# Altium schematic symbol library SPB_IC.SchLib: 78 symbols (part 1 of 2)
Pins are listed as number, name and electrical type; pins without a type are passive.

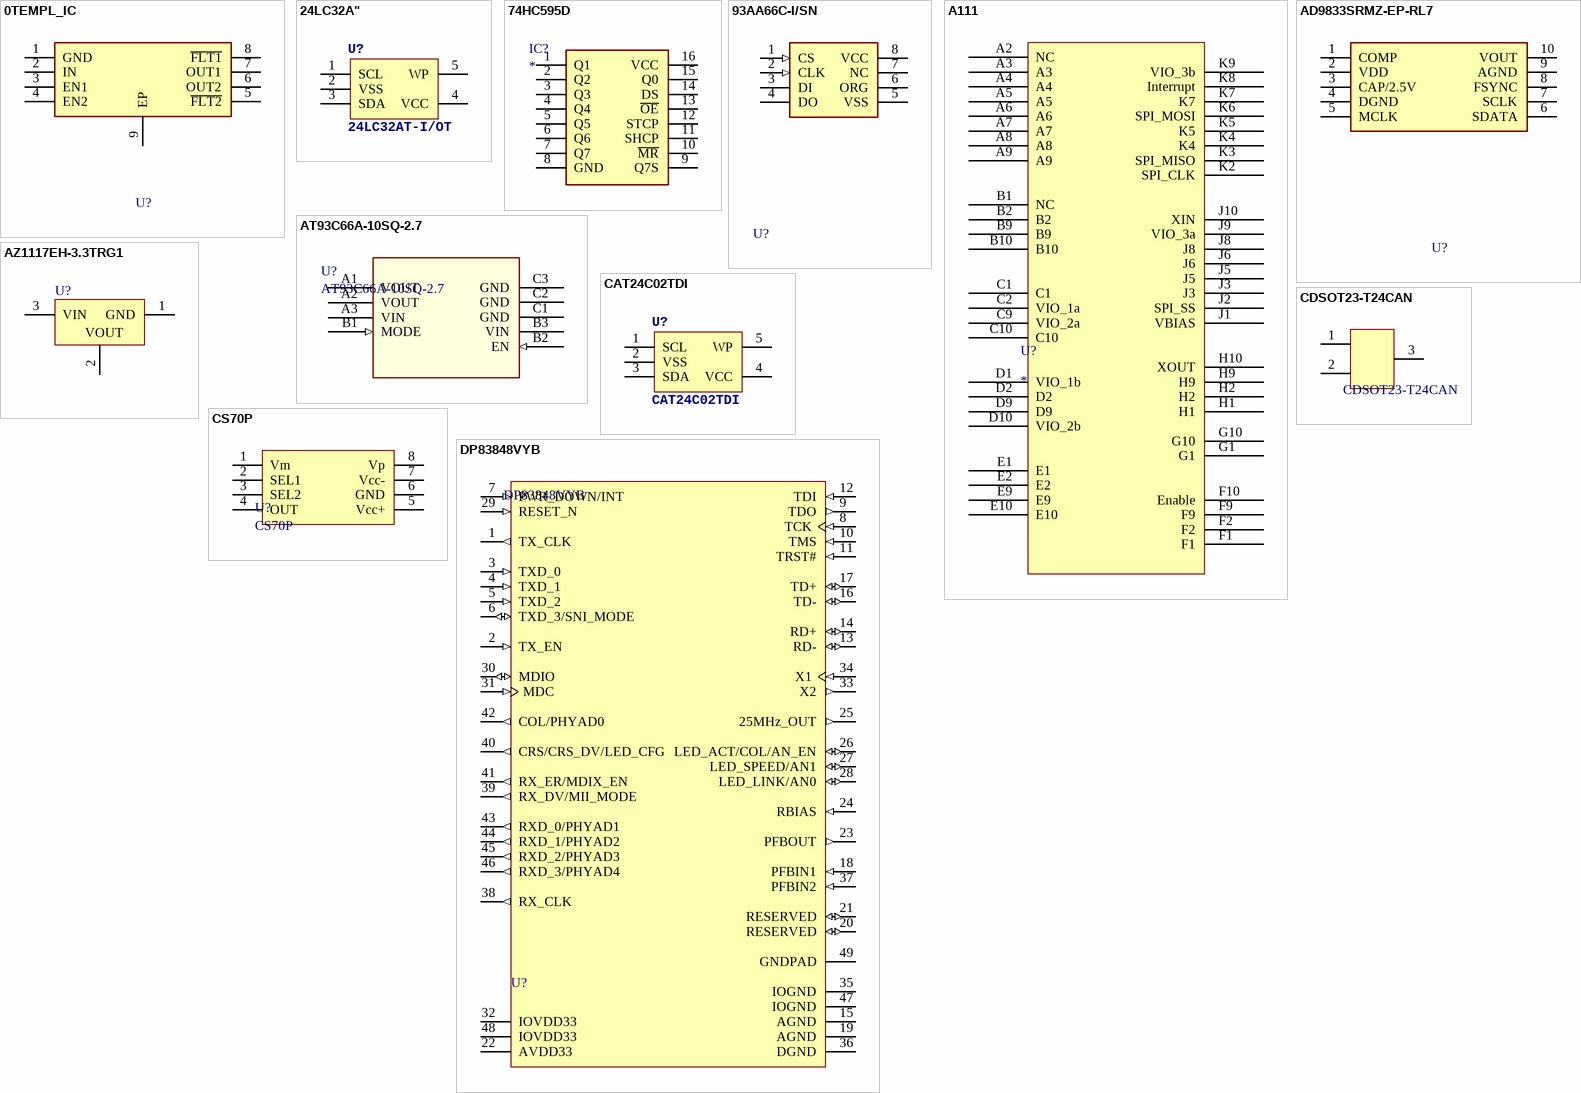
[diagram p0: symbols 0TEMPL_IC to DP83848VYB]

## 0TEMPL_IC
designator U?
Analogue Switch ICs 1-Ohm SP3T Analog Switch; Supplier 1: Digi-Key; Supplier 2: Mouser
pins: 1 GND, 2 IN, 3 EN1, 4 EN2, 5 ~{FLT2}, 6 OUT2, 7 OUT1, 8 ~{FLT1}, 9 EP

## 24LC32A"
designator U?, comment 24LC32AT-I/OT
32K i2c Serial EEPROM; Manufacturer Part Number: 24LC32AFT-I/OT; Mouser Part #: 579-24LC32AFT-I/OT; Digi-Key Part Number: 24LC32AFT-I/OTCT-ND
footprint SOT23-5(MICROCHIP)
pins: 1 SCL, 2 VSS, 3 SDA, 4 VCC, 5 WP

## 74HC595D
designator IC?
Integrated Circuit; Manufacturer_Name: Nexperia; Manufacturer_Part_Number: 74HC595D
footprint SOIC127P600X175-16N
pins: 1 Q1, 2 Q2, 3 Q3, 4 Q4, 5 Q5, 6 Q6, 7 Q7, 8 GND, 9 Q7S, 10 ~{MR}, 11 SHCP, 12 STCP, 13 ~{OE}, 14 DS, 15 Q0, 16 VCC

## 93AA66C-I/SN
designator U?  (value not drawn)
EEPROM 256x8-128x16 - 1.8V; Manufacturer Part Number: 93AA66C-I/SN; Mouser Part #: 579-93AA66C-I/SN; Supplier 1: Digi-Key; Supplier 2: Mouser; Supplier Part Number 2: 579-93AA66C-I/SN
footprint SOIC-8 (SOIC, 8-Leads, Body 4.90x3.90mm, Pitch 1.27mm, IPC Medium Density)
pins: 1 CS (in), 2 CLK (in), 3 DI, 4 DO, 5 VSS (power), 6 ORG, 7 NC, 8 VCC (power)

## A111
designator U?
IC SENSOR PCR RADAR 60GHZ CSP; Manufacturer Part Number: A111; DigiKey Part Number: 1891-1000-ND
footprint A111
pins: A2 NC, A3, A4, A5, A6, A7, A8, A9, B1 NC, B2, B9, B10, C1, C2 VIO_1a, C9 VIO_2a, C10, D1 VIO_1b, D2, D9, D10 VIO_2b, E1, E2, E9, E10, F1, F2, F9, F10 Enable, G1, G10, H1, H2, H9, H10 XOUT, J1 VBIAS, J2 SPI_SS, J3, J5, J6, J8, J9 VIO_3a, J10 XIN, K2 SPI_CLK, K3 SPI_MISO, K4, K5, K6 SPI_MOSI, K7, K8 Interrupt, K9 VIO_3b
1 alternate drawing of the same symbol

## AD9833SRMZ-EP-RL7
designator U?  (value not drawn)
Data Acquisition ADCs/DACs - Specialised 10 bit, 10 pin DDS I.C; Manufacturer Part Number: AD9833SRMZ-EP-RL7; Digi-Key Part Number: AD9833SRMZ-EP-RL7CT-ND; Mouser Part #: 584-AD9833SRMZEPRL7; Supplier 1: Digi-Key; Supplier 2: Mouser; Supplier Part Number 1: AD9833SRMZ-EP-RL7CT-ND; Supplier Part Number 2: 584-AD9833SRMZEPRL7
footprint SOP50P490X110-10N
pins: 1 COMP, 2 VDD, 3 CAP/2.5V, 4 DGND, 5 MCLK, 6 SDATA, 7 SCLK, 8 FSYNC, 9 AGND, 10 VOUT

## AT93C66A-10SQ-2.7
designator U?
EEPROM Memory IC 4Kb (512 x 8, 256 x 16) SPI 2MHz 8-SOIC; Manufacturer_Part_Number: AT93C66A-10SQ-2.7; Supplier 1: Digi-Key; Supplier 2: Mouser; Supplier Part Number 2: 556-A93C66A10SU2.7; Supplier Part Number 1: AT93C66A-10SU-2.7-ND
footprint SIP0009B
pins: A1 VOUT (power), A2 VOUT (power), A3 VIN (power), B1 MODE (in), B2 EN (in), B3 VIN (power), C1 GND (power), C2 GND (power), C3 GND (power)

## AZ1117EH-3.3TRG1
designator U?
LDO Voltage Regulators LDO BJT HiCurr; Manufacturer Part Number: AZ1117EH-3.3TRG1; Mouser Part #: 621-AZ1117EH-3.3TRG1
footprint SOT223_N (SOT223, 4-Leads, Body 6.5x3.5mm, Pitch 2.3mm, Lead Span 7mm, IPC Medium Density)
pins: 1 GND (power), 2 VOUT (power), 3 VIN (power)

## CAT24C02TDI
designator U?
32K i2c Serial EEPROM; Manufacturer Part Number: CAT24C02TDI-GT3A; Mouser Part #: 863-CAT24C02TDI-GT3A; Digi-Key Part Number: CAT24C02TDI-GT3AOSCT-ND
footprint SOT23-5(MICROCHIP)
pins: 1 SCL, 2 VSS, 3 SDA, 4 VCC, 5 WP

## CDSOT23-T24CAN
designator U?
TVS DIODE 24V 40V SOT23; Mouser Part #: 652-CDSOT23-T24CAN; Digi-Key Part Number: CDSOT23-T24CANCT-ND; Manufacturer Part Number: CDSOT23-T24CAN
footprint SOT95P245X110-3N (SOT23, 3-Leads, Body 2.90x2.45mm, Pitch 0.95mm, IPC Medium Density)
pins: 1, 2, 3

## CS70P
designator U?
Current Sense Amplifiers ANALOG; Digi-Key Part Number: 497-14596-6-ND; Mouser Part #: 511-CS70P
footprint TSOP65P640X120-8N (TSOP, 8-Leads, Body 3.00x4.40mm, Pitch 0.65mm, IPC Medium Density)
pins: 1 Vm, 2 SEL1, 3 SEL2, 4 OUT, 5 Vcc+, 6 GND, 7 Vcc-, 8 Vp

## DP83848VYB
designator U?
PHYTER® Extended Temperature Single Port 10/100 Mb/s Ethernet Physical Layer Transceiver, 48-pin LQFP-EP; Manufacturer Part Number: DP83848VYB; Mouser Part #: 926-DP83848VYB/NOPB; Digi-Key Part Number: DP83848VYB/NOPB-ND
footprint TSQFP50P900X900X160_HS-49N (TSQFP, 48-Leads, Body 7.00x7.00mm, Pitch 0.50mm, Thermal Pad 5.00x5.00mm, IPC Medium Density)
pins: 1 TX_CLK (out), 2 TX_EN (in), 3 TXD_0 (in), 4 TXD_1 (in), 5 TXD_2 (in), 6 TXD_3/SNI_MODE (io), 7 PWR_DOWN/INT (in), 8 TCK (in), 9 TDO (out), 10 TMS (in), 11 TRST# (in), 12 TDI (in), 13 RD- (io), 14 RD+ (io), 15 AGND (power), 16 TD- (io), 17 TD+ (io), 18 PFBIN1 (in), 19 AGND (power), 20 RESERVED (io), 21 RESERVED (io), 22 AVDD33 (power), 23 PFBOUT (out), 24 RBIAS (in), 25 25MHz_OUT (out), 26 LED_ACT/COL/AN_EN (io), 27 LED_SPEED/AN1 (io), 28 LED_LINK/AN0 (io), 29 RESET_N (in), 30 MDIO (io), 31 MDC (in), 32 IOVDD33 (power), 33 X2 (out), 34 X1 (in), 35 IOGND (power), 36 DGND (power), 37 PFBIN2 (in), 38 RX_CLK (out), 39 RX_DV/MII_MODE (out), 40 CRS/CRS_DV/LED_CFG (out), 41 RX_ER/MDIX_EN (out), 42 COL/PHYAD0 (out), 43 RXD_0/PHYAD1 (out), 44 RXD_1/PHYAD2 (out), 45 RXD_2/PHYAD3 (out), 46 RXD_3/PHYAD4 (out), 47 IOGND (power), 48 IOVDD33 (power), 49 GNDPAD (power)

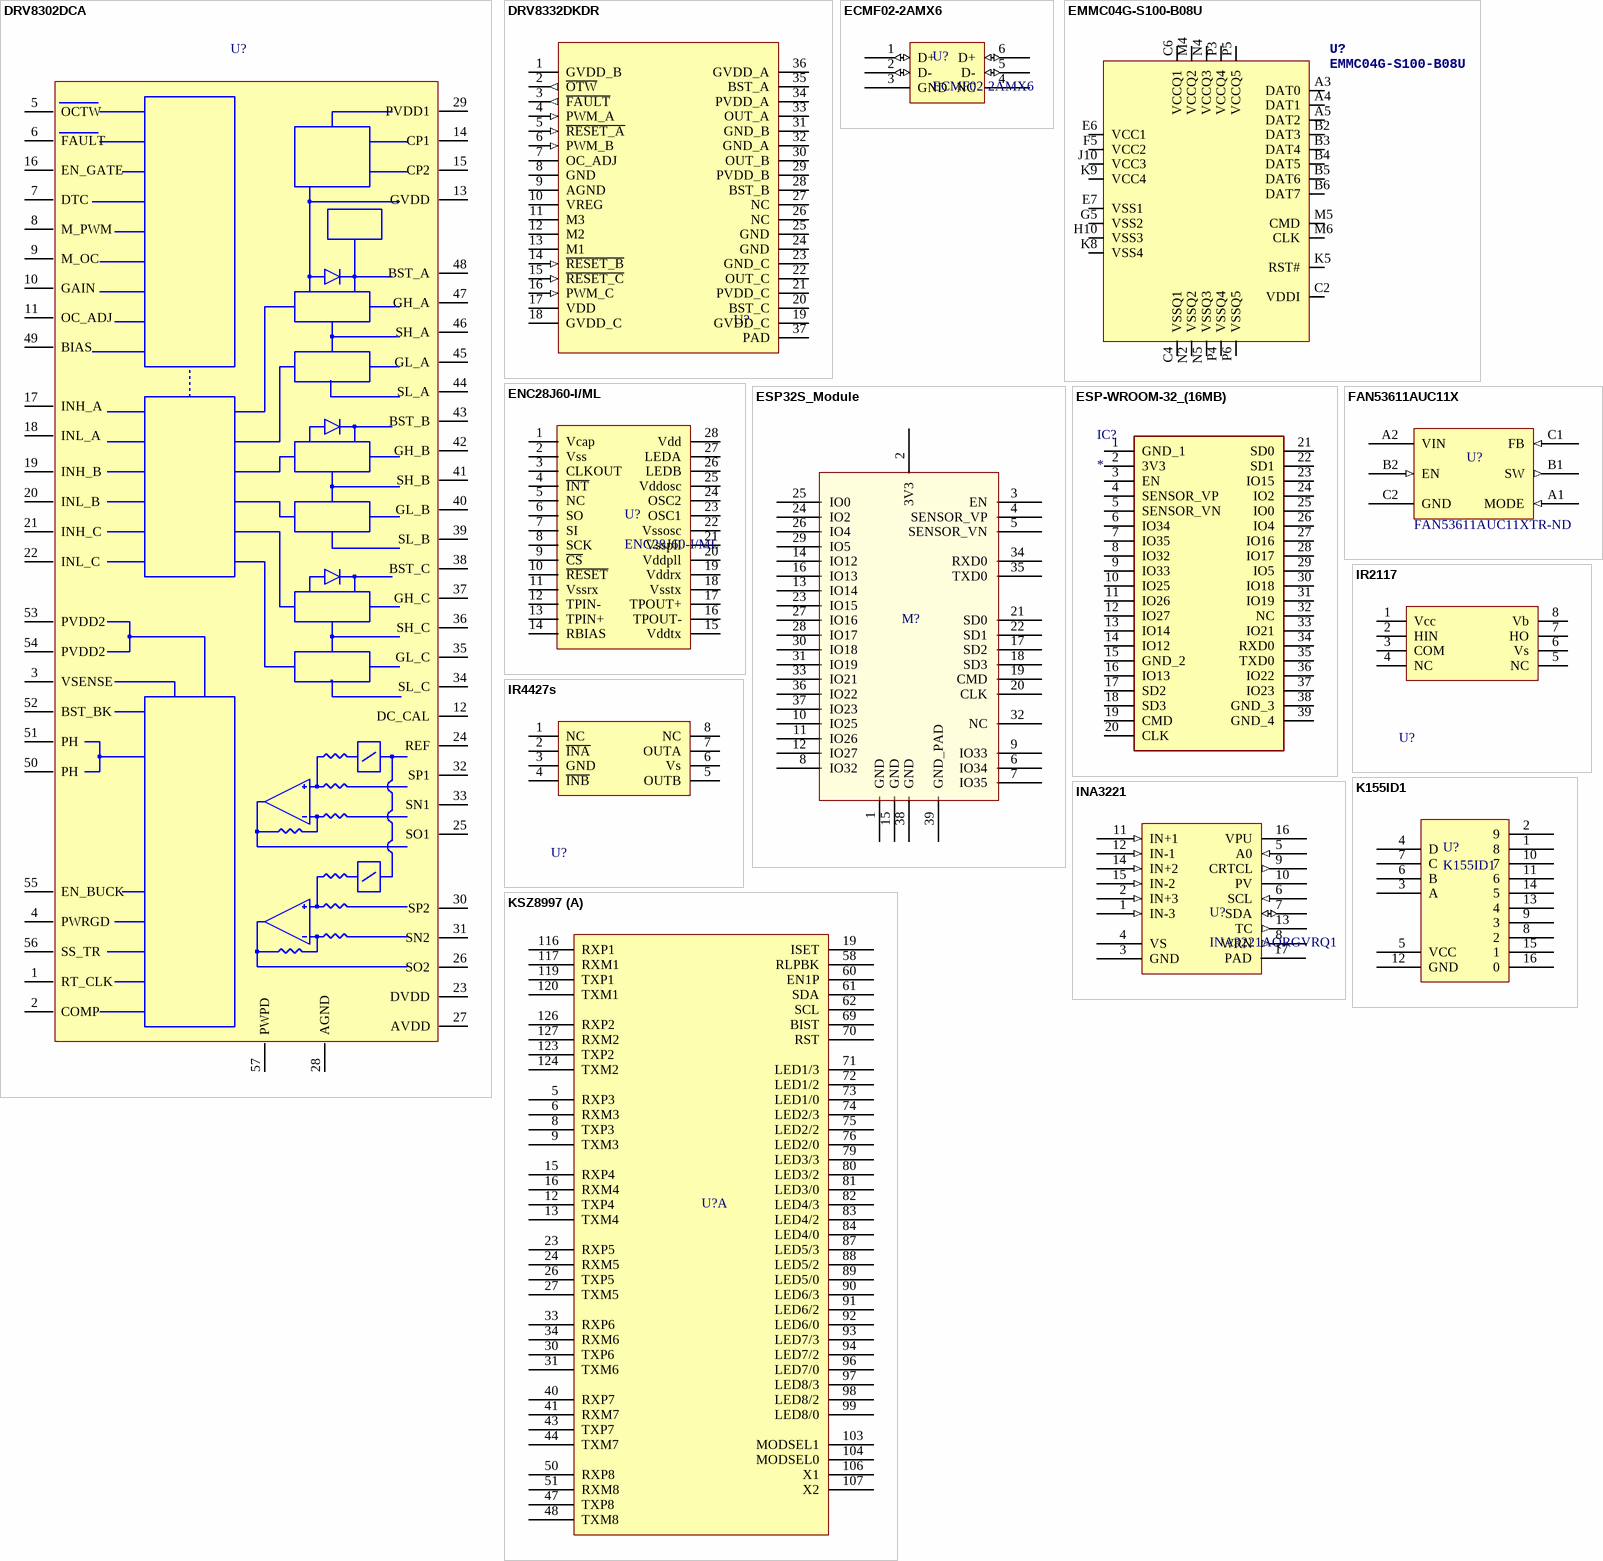
[diagram p1: symbols DRV8302DCA to KSZ8997]

## DRV8302DCA
designator U?, comment DRV8301DCA  (value not drawn)
IC, 3 Phase Pre-Driver with Dual Current Shunt Amplifiers and Buck Regulator-Hardware Controlled; Manufacturer Part Number: DRV8301DCA; Mouser Part #: 595-DRV8301DCA; Digi-Key Part Number: 296-29433-1-ND
footprint HTSSOP-56 (TSSOP, 56-Leads, Body 14.00x6.10mm, Pitch 0.50mm, Thermal Pad 6.35x3.61mm, IPC Medium Density)
pins: 1 RT_CLK, 2 COMP, 3 VSENSE, 4 PWRGD, 5 OCTW, 6 FAULT, 7 DTC, 8 M_PWM, 9 M_OC, 10 GAIN, 11 OC_ADJ, 12 DC_CAL, 13 GVDD, 14 CP1, 15 CP2, 16 EN_GATE, 17 INH_A, 18 INL_A, 19 INH_B, 20 INL_B, 21 INH_C, 22 INL_C, 23 DVDD, 24 REF, 25 SO1, 26 SO2, 27 AVDD, 28 AGND, 29 PVDD1, 30 SP2, 31 SN2, 32 SP1, 33 SN1, 34 SL_C, 35 GL_C, 36 SH_C, 37 GH_C, 38 BST_C, 39 SL_B, 40 GL_B, 41 SH_B, 42 GH_B, 43 BST_B, 44 SL_A, 45 GL_A, 46 SH_A, 47 GH_A, 48 BST_A, 49 BIAS, 50 PH, 51 PH, 52 BST_BK, 53 PVDD2, 54 PVDD2, 55 EN_BUCK, 56 SS_TR, 57 PWPD

## DRV8332DKDR
designator U?, comment DRV8332  (value not drawn)
Half Bridge (3) Driver DC Motors, General Purpose Power MOSFET 36-HSSOP; Manufacturer Part Number: DRV8332DKDR; Mouser Part #: 595-DRV8332DKDR; Digi-Key Part Number: 296-29572-1-ND
footprint SOP65P1420X360_HS-37N (SOP, 36-Leads, Body 15.90x11.00mm, Pitch 0.65mm, Thermal Pad 12.70x5.90mm, IPC Medium Density)
pins: 1 GVDD_B, 2 ~{OTW} (out), 3 ~{FAULT} (out), 4 PWM_A (in), 5 ~{RESET_A} (in), 6 PWM_B (in), 7 OC_ADJ, 8 GND, 9 AGND, 10 VREG, 11 M3, 12 M2, 13 M1, 14 ~{RESET_B} (in), 15 ~{RESET_C} (in), 16 PWM_C (in), 17 VDD, 18 GVDD_C, 19 GVDD_C, 20 BST_C, 21 PVDD_C, 22 OUT_C, 23 GND_C, 24 GND, 25 GND, 26 NC, 27 NC, 28 BST_B, 29 PVDD_B, 30 OUT_B, 31 GND_B, 32 GND_A, 33 OUT_A, 34 PVDD_A, 35 BST_A, 36 GVDD_A, 37 PAD

## ECMF02-2AMX6
designator U?
Manufacturer Part Number: ECMF02-2AMX6; Mouser Part #: 511-ECMF02-2AMX6; DigiKey Part Number: *
footprint uQFN-6L
pins: 1 D+ (io), 2 D- (io), 3 GND (power), 4 NC (power), 5 D- (io), 6 D+ (io)

## EMMC04G-S100-B08U
designator U?
footprint MICRON_EMMC_153
pins: A3 DAT0, A4 DAT1, A5 DAT2, B2 DAT3, B3 DAT4, B4 DAT5, B5 DAT6, B6 DAT7, C2 VDDI, C4 VSSQ1, C6 VCCQ1, E6 VCC1, E7 VSS1, F5 VCC2, G5 VSS2, H10 VSS3, J10 VCC3, K5 RST#, K8 VSS4, K9 VCC4, M4 VCCQ2, M5 CMD, M6 CLK, N2 VSSQ2, N4 VCCQ3, N5 VSSQ3, P3 VCCQ4, P4 VSSQ4, P5 VCCQ5, P6 VSSQ5

## ENC28J60-I/ML
designator U?
Ethernet ICs 8 KB RAM MAC&PHY Ethernet Controller; Manufacturer Part Number: ENC28J60-I/ML; Digi-Key Part Number: ENC28J60-I/ML-ND; Mouser Part #: 579-ENC28J60-I/ML
footprint QFN65P600X600X90_HS-29N (QFN, 28-Leads, Body 6,00x6,00mm, Pitch 0,65mm, Thermal Pad 4,09x4,09mm, IPC Medium Density)
pins: 1 Vcap, 2 Vss, 3 CLKOUT, 4 ~{INT}, 5 NC, 6 SO, 7 SI, 8 SCK, 9 ~{CS}, 10 ~{RESET}, 11 Vssrx, 12 TPIN-, 13 TPIN+, 14 RBIAS, 15 Vddtx, 16 TPOUT-, 17 TPOUT+, 18 Vsstx, 19 Vddrx, 20 Vddpll, 21 Vsspll, 22 Vssosc, 23 OSC1, 24 OSC2, 25 Vddosc, 26 LEDB, 27 LEDA, 28 Vdd

## ESP32S_Module
designator M?  (value not drawn)
Esp-32S; Datasheet: https://espressif.com/sites/default/files/documentation/esp_wroom_32_datasheet_en.pdf
footprint ESP32-WROVER (ESP32-WROVER modules with a PCB antenna or an IPEX  antenna)
footprint ESP32S_W (Esp32S Module wide for hand soldering)
pins: 1 GND (power), 2 3V3 (power), 3 EN (power), 4 SENSOR_VP, 5 SENSOR_VN, 6 IO34, 7 IO35, 8 IO32, 9 IO33, 10 IO25, 11 IO26, 12 IO27, 13 IO14, 14 IO12, 15 GND (power), 16 IO13, 17 SD2, 18 SD3, 19 CMD, 20 CLK, 21 SD0, 22 SD1, 23 IO15, 24 IO2, 25 IO0, 26 IO4, 27 IO16, 28 IO17, 29 IO5, 30 IO18, 31 IO19, 32 NC, 33 IO21, 34 RXD0, 35 TXD0, 36 IO22, 37 IO23, 38 GND (power), 39 GND_PAD (power)

## ESP-WROOM-32_(16MB)
designator IC?
Integrated Circuit; Manufacturer_Part_Number: ESP-WROOM-32 (16MB); Mouser Part #: 356-ESPWROOM3216MB; DigiKey Part Number: 1904-1010-1-ND
footprint ESP32S_WROOM (Esp32S Module wide for hand soldering)
pins: 1 GND_1, 2 3V3, 3 EN, 4 SENSOR_VP, 5 SENSOR_VN, 6 IO34, 7 IO35, 8 IO32, 9 IO33, 10 IO25, 11 IO26, 12 IO27, 13 IO14, 14 IO12, 15 GND_2, 16 IO13, 17 SD2, 18 SD3, 19 CMD, 20 CLK, 21 SD0, 22 SD1, 23 IO15, 24 IO2, 25 IO0, 26 IO4, 27 IO16, 28 IO17, 29 IO5, 30 IO18, 31 IO19, 32 NC, 33 IO21, 34 RXD0, 35 TXD0, 36 IO22, 37 IO23, 38 GND_3, 39 GND_4

## FAN53611AUC11X
designator U?  Supplier Part Number 1: FAN53611AUC11XTR-ND  (hidden comment: *)
Supplier 1: Digi-Key
footprint SMD40P2X3-0.84X1.24-6V (Micro SMD, 6-Leads, Body 1.24x0.84mm, Pitch 0.4mm, NSC Recommended)
pins: A1 MODE (in), A2 VIN (power), B1 SW (out), B2 EN (in), C1 FB (in), C2 GND (power)

## INA3221
designator U?, comment INA3221AQRGVRQ1
Current/Voltage Monitor Regulator High/Low-Side; Manufacturer Part Number: INA3221AQRGVRQ1; Digi-Key Part Number: 296-44112-1-ND; Mouser Part #: 595-INA3221AQRGVRQ1
footprint RSA16_L (16-Pin Plastic Quad Flat No-Lead 0.65 mm Pitch, IPC High Density)
footprint RSA16_L (16-Pin Plastic Quad Flat No-Lead 0.65 mm Pitch, IPC High Density)
pins: 1 IN-3 (in), 2 IN+3 (in), 3 GND (power), 4 VS (power), 5 A0 (in), 6 SCL (in), 7 SDA (io), 8 WRN (out), 9 CRTCL (out), 10 PV, 11 IN+1 (in), 12 IN-1 (in), 13 TC (out), 14 IN+2 (in), 15 IN-2 (in), 16 VPU, 17 PAD

## IR2117
designator U?, comment IR2117STRPBF  (value not drawn)
Gate Drivers Single Ch DRVR 600V 200mA 125ns; Manufacturer Part Number: IR2117STRPBF; Digi-Key Part Number: 497-11127-2-ND; Mouser Part #: 942-IR2117STRPBF
footprint SOIC-8 (SOIC, 8-Leads, Body 4.90x3.90mm, Pitch 1.27mm, IPC Medium Density)
pins: 1 Vcc, 2 HIN, 3 COM, 4 NC, 5 NC, 6 Vs, 7 HO, 8 Vb

## IR4427s
designator U?, comment IR4427STRPBF  (value not drawn)
Gate Drivers Dual Lw Sd Drvr; Manufacturer Part Number: IR4427STRPBF; Digi-Key Part Number: IR4427SPBFTR-ND; Mouser Part #: 942-IR4427STRPBF
footprint SOIC-8 (SOIC, 8-Leads, Body 4.90x3.90mm, Pitch 1.27mm, IPC Medium Density)
pins: 1 NC, 2 ~{INA}, 3 GND, 4 ~{INB}, 5 OUTB, 6 Vs, 7 OUTA, 8 NC

## K155ID1
designator U?
BCD to decimal driver with high voltage open collector outputs; Manufacturer Part Number: K155ID1; Mouser Part #: N/A; Digi-Key Part Number: N/A
footprint DIP-16-Panel (DIP; 16 Leads; Row Spacing 7.62 mm; Pitch 2.54 mm)
pins: 1 8, 2 9, 3 A, 4 D, 5 VCC, 6 B, 7 C, 8 2, 9 3, 10 7, 11 6, 12 GND, 13 4, 14 5, 15 1, 16 0

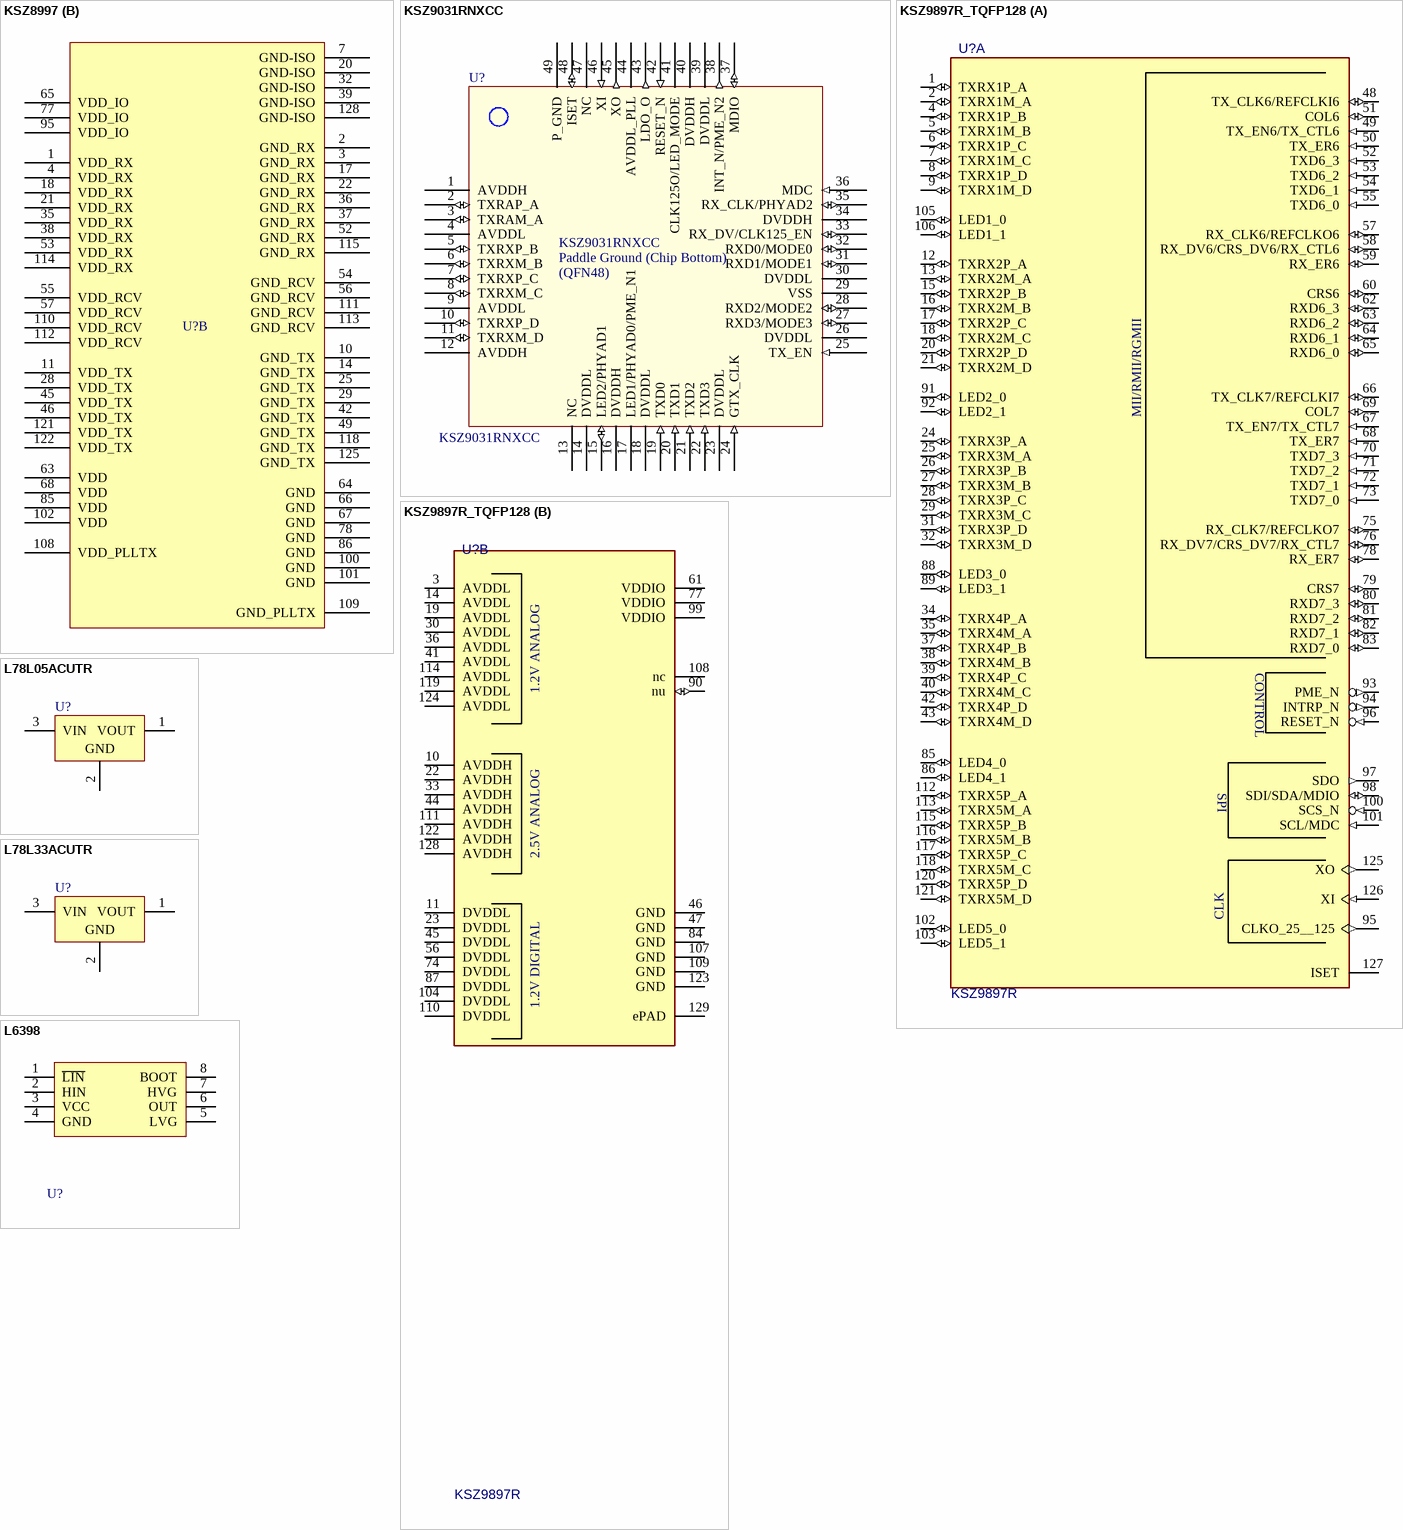
[diagram p2: symbols KSZ8997 to L6398]

## KSZ8997
designator U?  (value not drawn)
Supplier 1: Digi-Key
footprint SQFP50P1600X2200-128L (Shrink QFP, 128-Leads, Body 20x14 mm, Pitch 0.5mm, IPC High Density)
part A pins: 5 RXP3, 6 RXM3, 8 TXP3, 9 TXM3, 12 TXP4, 13 TXM4, 15 RXP4, 16 RXM4, 19 ISET, 23 RXP5, 24 RXM5, 26 TXP5, 27 TXM5, 30 TXP6, 31 TXM6, 33 RXP6, 34 RXM6, 40 RXP7, 41 RXM7, 43 TXP7, 44 TXM7, 47 TXP8, 48 TXM8, 50 RXP8, 51 RXM8, 58 RLPBK, 60 EN1P, 61 SDA, 62 SCL, 69 BIST, 70 RST, 71 LED1/3, 72 LED1/2, 73 LED1/0, 74 LED2/3, 75 LED2/2, 76 LED2/0, 79 LED3/3, 80 LED3/2, 81 LED3/0, 82 LED4/3, 83 LED4/2, 84 LED4/0, 87 LED5/3, 88 LED5/2, 89 LED5/0, 90 LED6/3, 91 LED6/2, 92 LED6/0, 93 LED7/3, 94 LED7/2, 96 LED7/0, 97 LED8/3, 98 LED8/2, 99 LED8/0, 103 MODSEL1, 104 MODSEL0, 106 X1, 107 X2, 116 RXP1, 117 RXM1, 119 TXP1, 120 TXM1, 123 TXP2, 124 TXM2, 126 RXP2, 127 RXM2
part B pins: 1 VDD_RX, 2 GND_RX, 3 GND_RX, 4 VDD_RX, 7 GND-ISO, 10 GND_TX, 11 VDD_TX, 14 GND_TX, 17 GND_RX, 18 VDD_RX, 20 GND-ISO, 21 VDD_RX, 22 GND_RX, 25 GND_TX, 28 VDD_TX, 29 GND_TX, 32 GND-ISO, 35 VDD_RX, 36 GND_RX, 37 GND_RX, 38 VDD_RX, 39 GND-ISO, 42 GND_TX, 45 VDD_TX, 46 VDD_TX, 49 GND_TX, 52 GND_RX, 53 VDD_RX, 54 GND_RCV, 55 VDD_RCV, 56 GND_RCV, 57 VDD_RCV, 63 VDD, 64 GND, 65 VDD_IO, 66 GND, 67 GND, 68 VDD, 77 VDD_IO, 78 GND, 85 VDD, 86 GND, 95 VDD_IO, 100 GND, 101 GND, 102 VDD, 108 VDD_PLLTX, 109 GND_PLLTX, 110 VDD_RCV, 111 GND_RCV, 112 VDD_RCV, 113 GND_RCV, 114 VDD_RX, 115 GND_RX, 118 GND_TX, 121 VDD_TX, 122 VDD_TX, 125 GND_TX, 128 GND-ISO

## KSZ9031RNXCC
designator U?  Manufacturer Part Number 1: KSZ9031RNXCC
KSZ9031RNXCC 10/100/100 GPHY with RGMII 48QFN; Supplier 1: Mouser; Supplier Part Number 1: 998-KSZ9031RNXCC; Mouser Part #: 998-KSZ9031RNXCC
footprint QFN-48_7x7-EP5.1sq (QFN, 48-Leads, Body 7x7mm, Pitch 0.5mm, Thermal Pad 5.1mmsq)
pins: 1 AVDDH (power), 2 TXRAP_A (io), 3 TXRAM_A (io), 4 AVDDL (power), 5 TXRXP_B (io), 6 TXRXM_B (io), 7 TXRXP_C (io), 8 TXRXM_C (io), 9 AVDDL (power), 10 TXRXP_D (io), 11 TXRXM_D (io), 12 AVDDH (power), 13 NC, 14 DVDDL (power), 15 LED2/PHYAD1 (io), 16 DVDDH (power), 17 LED1/PHYAD0/PME_N1, 18 DVDDL (power), 19 TXD0 (in), 20 TXD1 (in), 21 TXD2 (in), 22 TXD3 (in), 23 DVDDL (power), 24 GTX_CLK (in), 25 TX_EN (in), 26 DVDDL (power), 27 RXD3/MODE3 (io), 28 RXD2/MODE2 (io), 29 VSS, 30 DVDDL (power), 31 RXD1/MODE1 (io), 32 RXD0/MODE0 (io), 33 RX_DV/CLK125_EN (io), 34 DVDDH (power), 35 RX_CLK/PHYAD2 (io), 36 MDC (in), 37 MDIO (io), 38 INT_N/PME_N2 (out), 39 DVDDL (power), 40 DVDDH (power), 41 CLK125O/LED_MODE, 42 RESET_N (in), 43 LDO_O (out), 44 AVDDL_PLL (power), 45 XO (out), 46 XI (in), 47 NC, 48 ISET (io), 49 P_GND
text: Paddle Ground (Chip Bottom); (QFN48)

## KSZ9897R_TQFP128
designator U?, comment KSZ9897R
IC, 7-Port Gigabit Ethernet Switch with 2 RGMII / MII / RMII Interfaces, TQFP128; Manufacturer Part Number 1: KSZ9897RTXC; Supplier Part Number 1: KSZ9897RTXC-CT-ND; Supplier 1: Digi-Key; Description_: IC, 7-Port Gigabit Ethernet Switch with 2 RGMII / MII / RMII Interfaces, TQFP128; Supplier 2: Mouser; Supplier Part Number 2: 579-KSZ9897RTXC-TR; Value: KSZ9897R
footprint TQFP-128_14x14_EP10x10 (TSQFP, 128-Leads, Body 14.00x14.00mm, Pitch 0.40mm, 10mm Epad, IPC Medium Density)
footprint TQFP-128_14x14_EP10x10 (TSQFP, 128-Leads, Body 14.00x14.00mm, Pitch 0.40mm, 10mm Epad, IPC Medium Density)
part A pins: 1 TXRX1P_A (io), 2 TXRX1M_A (io), 4 TXRX1P_B (io), 5 TXRX1M_B (io), 6 TXRX1P_C (io), 7 TXRX1M_C (io), 8 TXRX1P_D (io), 9 TXRX1M_D (io), 12 TXRX2P_A (io), 13 TXRX2M_A (io), 15 TXRX2P_B (io), 16 TXRX2M_B (io), 17 TXRX2P_C (io), 18 TXRX2M_C (io), 20 TXRX2P_D (io), 21 TXRX2M_D (io), 24 TXRX3P_A (io), 25 TXRX3M_A (io), 26 TXRX3P_B (io), 27 TXRX3M_B (io), 28 TXRX3P_C (io), 29 TXRX3M_C (io), 31 TXRX3P_D (io), 32 TXRX3M_D (io), 34 TXRX4P_A (io), 35 TXRX4M_A (io), 37 TXRX4P_B (io), 38 TXRX4M_B (io), 39 TXRX4P_C (io), 40 TXRX4M_C (io), 42 TXRX4P_D (io), 43 TXRX4M_D (io), 48 TX_CLK6/REFCLKI6 (io), 49 TX_EN6/TX_CTL6 (in), 50 TX_ER6 (in), 51 COL6 (io), 52 TXD6_3 (in), 53 TXD6_2 (in), 54 TXD6_1 (in), 55 TXD6_0 (in), 57 RX_CLK6/REFCLKO6 (io), 58 RX_DV6/CRS_DV6/RX_CTL6 (io), 59 RX_ER6 (io), 60 CRS6 (io), 62 RXD6_3 (io), 63 RXD6_2 (io), 64 RXD6_1 (io), 65 RXD6_0 (io), 66 TX_CLK7/REFCLKI7 (io), 67 TX_EN7/TX_CTL7 (in), 68 TX_ER7 (in), 69 COL7 (io), 70 TXD7_3 (in), 71 TXD7_2 (in), 72 TXD7_1 (in), 73 TXD7_0 (in), 75 RX_CLK7/REFCLKO7 (io), 76 RX_DV7/CRS_DV7/RX_CTL7 (io), 78 RX_ER7 (io), 79 CRS7 (io), 80 RXD7_3 (io), 81 RXD7_2 (io), 82 RXD7_1 (io), 83 RXD7_0 (io), 85 LED4_0 (io), 86 LED4_1 (io), 88 LED3_0 (io), 89 LED3_1 (io), 91 LED2_0 (io), 92 LED2_1 (io), 93 PME_N (out), 94 INTRP_N (out), 95 CLKO_25__125 (out), 96 RESET_N (in), 97 SDO (out), 98 SDI/SDA/MDIO (io), 100 SCS_N (in), 101 SCL/MDC (in), 102 LED5_0 (io), 103 LED5_1 (io), 105 LED1_0 (io), 106 LED1_1 (io), 112 TXRX5P_A (io), 113 TXRX5M_A (io), 115 TXRX5P_B (io), 116 TXRX5M_B (io), 117 TXRX5P_C (io), 118 TXRX5M_C (io), 120 TXRX5P_D (io), 121 TXRX5M_D (io), 125 XO (out), 126 XI (in), 127 ISET
part B pins: 3 AVDDL (power), 10 AVDDH (power), 11 DVDDL (power), 14 AVDDL (power), 19 AVDDL (power), 22 AVDDH (power), 23 DVDDL (power), 30 AVDDL (power), 33 AVDDH (power), 36 AVDDL (power), 41 AVDDL (power), 44 AVDDH (power), 45 DVDDL (power), 46 GND (power), 47 GND (power), 56 DVDDL (power), 61 VDDIO (power), 74 DVDDL (power), 77 VDDIO (power), 84 GND (power), 87 DVDDL (power), 90 nu (io), 99 VDDIO (power), 104 DVDDL (power), 107 GND (power), 108 nc, 109 GND (power), 110 DVDDL (power), 111 AVDDH (power), 114 AVDDL (power), 119 AVDDL (power), 122 AVDDH (power), 123 GND (power), 124 AVDDL (power), 128 AVDDH (power), 129 ePAD (power)
1 alternate drawing of the same symbol
part A text: MII/RMII/RGMII; CONTROL; SPI; CLK
part B text: 1.2V ANALOG; 2.5V ANALOG; 1.2V DIGITAL

## L78L05ACUTR
designator U?
IC REG LINEAR 5V 100MA SOT89-3; Manufacturer Part Number: L78L05ACUTR; Mouser Part #: 511-L78L05ACU; Digi-Key Part Number: 497-1183-2-ND
footprint SOT89L (SOT89, 3-Leads, Body 4.5x2.4 mm, Pitch 1.5mm, Lead Span 4.1mm, IPC High Density)
footprint SOT89M (SOT89, 3-Leads, Body 4.5x2.4 mm, Pitch 1.5mm, Lead Span 4.1mm, IPC Low Density)
footprint SOT89N (SOT89, 3-Leads, Body 4.5x2.4 mm, Pitch 1.5mm, Lead Span 4.1mm, IPC Medium Density)
pins: 1 VOUT (power), 2 GND (power), 3 VIN (power)

## L78L33ACUTR
designator U?
Positive Voltage Regulator, 3.3V, 4-Pin SOT-89, Tape and Reel; Manufacturer Part Number: L78L33ACUTR; Mouser Part #: 511-L78L33ACU; Digi-Key Part Number: 497-1200-1-ND
footprint SOT89L (SOT89, 3-Leads, Body 4.5x2.4 mm, Pitch 1.5mm, Lead Span 4.1mm, IPC High Density)
footprint SOT89M (SOT89, 3-Leads, Body 4.5x2.4 mm, Pitch 1.5mm, Lead Span 4.1mm, IPC Low Density)
footprint SOT89N (SOT89, 3-Leads, Body 4.5x2.4 mm, Pitch 1.5mm, Lead Span 4.1mm, IPC Medium Density)
pins: 1 VOUT (power), 2 GND (power), 3 VIN (power)

## L6398
designator U?, comment L6398D  (value not drawn)
High voltage high and low-side driver; Manufacturer Part Number: L6398D; Digi-Key Part Number: 497-11127-2-ND; Mouser Part #: 511-L6398D
footprint SO8_M (SOIC, 8-Leads, Body 4.9x3.9mm, Pitch 1.27mm, IPC Low Density)
pins: 1 ~{LIN}, 2 HIN, 3 VCC, 4 GND, 5 LVG, 6 OUT, 7 HVG, 8 BOOT

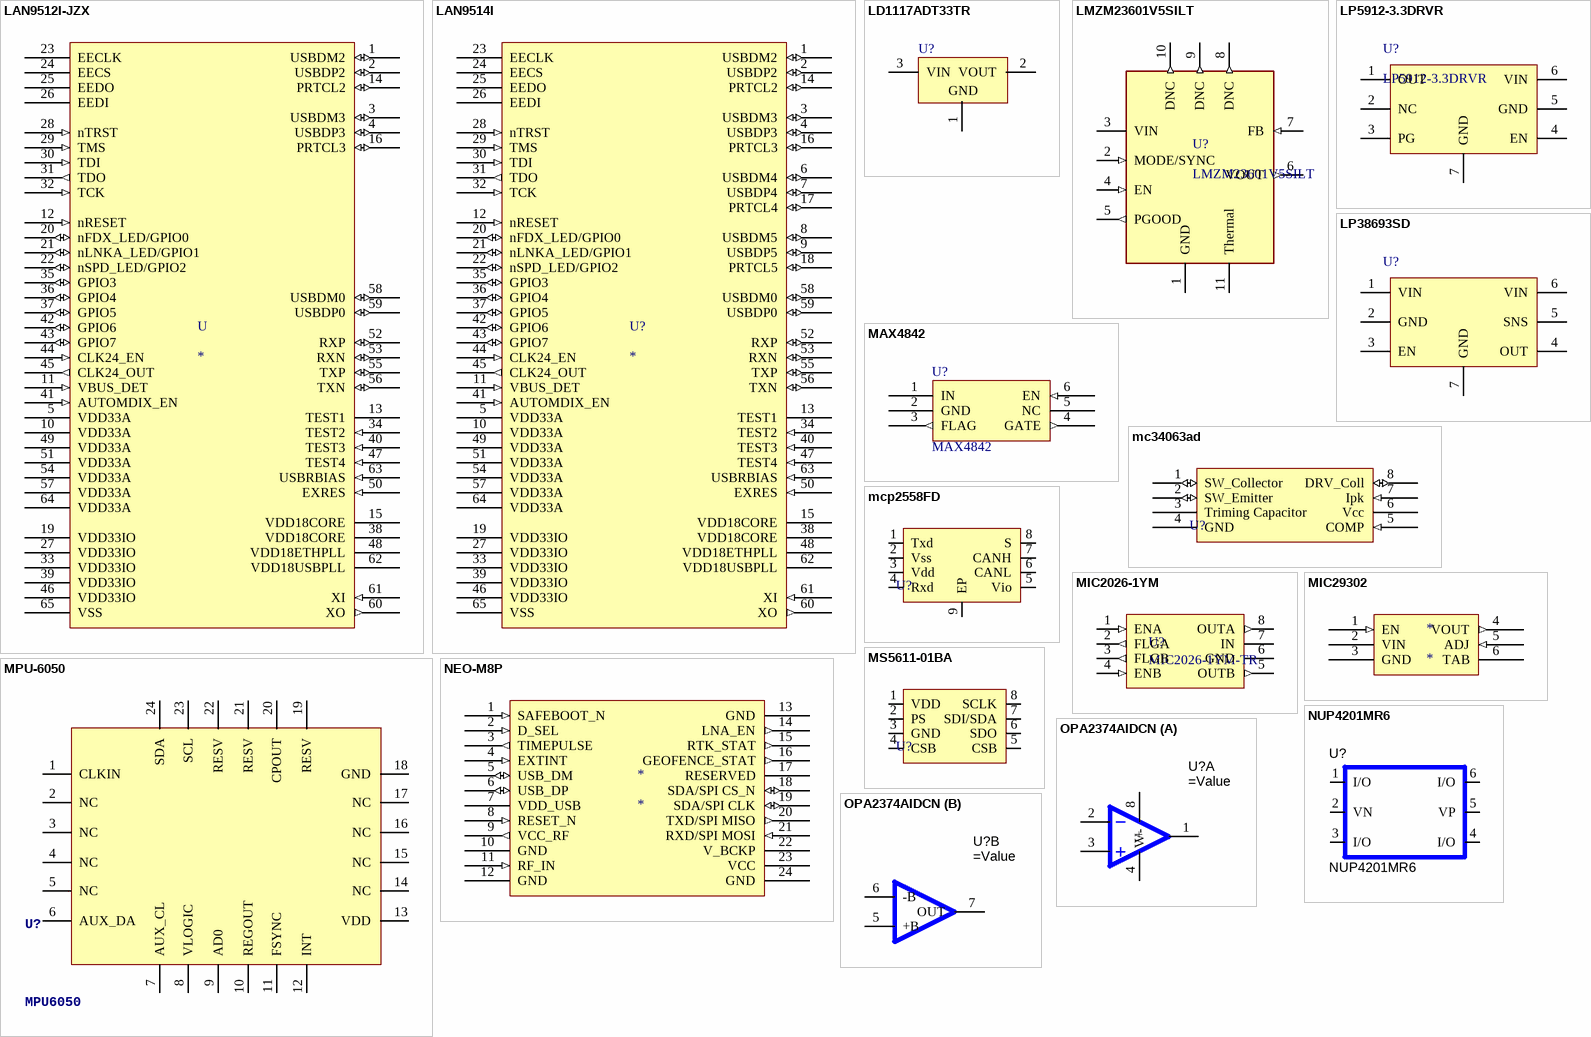
[diagram p3: symbols LAN9512I-JZX to OPA2374AIDCN]

## LAN9512I-JZX
designator U
USB Interface IC Hi-Speed USB 2.0 Hub High Perf 10/100 Ind; Manufacturer Part Number: LAN9514I-JZX; DigiKey Part Number: LAN9512I-JZX-ND; Mouser Part #: 886-LAN9514I-JZX
footprint QFN64_L (QFN, 64-Leads, Body 9x9mm, Pitch 0.5mm, IPC High Density)
pins: 1 USBDM2 (io), 2 USBDP2 (io), 3 USBDM3 (io), 4 USBDP3 (io), 5 VDD33A (power), 10 VDD33A (power), 11 VBUS_DET (in), 12 nRESET (in), 13 TEST1, 14 PRTCL2 (io), 15 VDD18CORE (power), 16 PRTCL3 (io), 19 VDD33IO (power), 20 nFDX_LED/GPIO0 (io), 21 nLNKA_LED/GPIO1 (io), 22 nSPD_LED/GPIO2 (io), 23 EECLK, 24 EECS, 25 EEDO, 26 EEDI, 27 VDD33IO (power), 28 nTRST (in), 29 TMS (in), 30 TDI (in), 31 TDO (out), 32 TCK (in), 33 VDD33IO (power), 34 TEST2 (in), 35 GPIO3 (io), 36 GPIO4 (io), 37 GPIO5 (io), 38 VDD18CORE (power), 39 VDD33IO (power), 40 TEST3 (in), 41 AUTOMDIX_EN (in), 42 GPIO6 (io), 43 GPIO7 (io), 44 CLK24_EN (in), 45 CLK24_OUT (out), 46 VDD33IO (power), 47 TEST4 (in), 48 VDD18ETHPLL (power), 49 VDD33A (power), 50 EXRES (in), 51 VDD33A (power), 52 RXP (io), 53 RXN (io), 54 VDD33A (power), 55 TXP (io), 56 TXN (io), 57 VDD33A (power), 58 USBDM0 (io), 59 USBDP0 (io), 60 XO (out), 61 XI (in), 62 VDD18USBPLL (power), 63 USBRBIAS (in), 64 VDD33A (power), 65 VSS (power)

## LAN9514I
designator U?
USB Interface IC Hi-Speed USB 2.0 Hub High Perf 10/100 Ind; Manufacturer Part Number: LAN9514I-JZX
footprint QFN64_L (QFN, 64-Leads, Body 9x9mm, Pitch 0.5mm, IPC High Density)
pins: 1 USBDM2 (io), 2 USBDP2 (io), 3 USBDM3 (io), 4 USBDP3 (io), 5 VDD33A (power), 6 USBDM4 (io), 7 USBDP4 (io), 8 USBDM5 (io), 9 USBDP5 (io), 10 VDD33A (power), 11 VBUS_DET (in), 12 nRESET (in), 13 TEST1, 14 PRTCL2 (io), 15 VDD18CORE (power), 16 PRTCL3 (io), 17 PRTCL4 (io), 18 PRTCL5 (io), 19 VDD33IO (power), 20 nFDX_LED/GPIO0 (io), 21 nLNKA_LED/GPIO1 (io), 22 nSPD_LED/GPIO2 (io), 23 EECLK, 24 EECS, 25 EEDO, 26 EEDI, 27 VDD33IO (power), 28 nTRST (in), 29 TMS (in), 30 TDI (in), 31 TDO (out), 32 TCK (in), 33 VDD33IO (power), 34 TEST2 (in), 35 GPIO3 (io), 36 GPIO4 (io), 37 GPIO5 (io), 38 VDD18CORE (power), 39 VDD33IO (power), 40 TEST3 (in), 41 AUTOMDIX_EN (in), 42 GPIO6 (io), 43 GPIO7 (io), 44 CLK24_EN (in), 45 CLK24_OUT (out), 46 VDD33IO (power), 47 TEST4 (in), 48 VDD18ETHPLL (power), 49 VDD33A (power), 50 EXRES (in), 51 VDD33A (power), 52 RXP (io), 53 RXN (io), 54 VDD33A (power), 55 TXP (io), 56 TXN (io), 57 VDD33A (power), 58 USBDM0 (io), 59 USBDP0 (io), 60 XO (out), 61 XI (in), 62 VDD18USBPLL (power), 63 USBRBIAS (in), 64 VDD33A (power), 65 VSS (power)

## LD1117ADT33TR
designator U?
LDO Voltage Regulators 3.3V 1.0A Positive; Manufacturer Part Number: LD1117ADT33TR; Mouser Part #: 511-LD1117ADT33-TR
footprint TO-252(D2PACK) (DPAK, SMT package)
pins: 1 GND/ADJ (power), 2 VOUT (power), 3 VIN (power)
text: GND

## LMZM23601V5SILT
designator U?
footprint LMZM23601 (LMZM23601 36-V, 1-A Step-Down DC/DC Power Module in 3.8-mm ? 3-mm Package)
pins: 1 GND (power), 2 MODE/SYNC (in), 3 VIN (power), 4 EN (in), 5 PGOOD (out), 6 VOUT (out), 7 FB (in), 8 DNC (out), 9 DNC (out), 10 DNC (out), 11 Thermal (power)

## LP5912-3.3DRVR
designator U?
LDO Voltage Regulators Ultra-Low-Noise 500-mA Linear Regulator for RF and Analog Circuits 6-SON -40 to 125; Mouser Part #: 595-LP5912-3.3DRVR; Manufacturer Part Number: LP5912-3.3DRVR; Digi-Key Part Number: 296-47214-2-ND; Value: LP5912-3.3DRVR
footprint WSON6P2mmX2mm (SON, 6-Leads, Body 2.00x2.00mm, Pitch 0.65mm, Thermal Pad 1.60x0.89mm, IPC Medium Density)
pins: 1 OUT, 2 NC, 3 PG, 4 EN, 5 GND, 6 VIN, 7 GND

## LP38693SD
designator U?
footprint WSON6_300X300 (SON, 6-Leads, Body 3.00x3.00mm, Pitch 0.95mm, Thermal Pad 2.15x1.61mm, IPC Medium Density)
pins: 1 VIN, 2 GND, 3 EN, 4 OUT, 5 SNS, 6 VIN, 7 GND

## MAX4842
designator U?
footprint MAA06A_N (SOT363, 6-Leads, Body 2x1.3mm, Pitch 0.65mm, Lead Span 2.1mm, IPC Medium Density)
pins: 1 IN (power), 2 GND (power), 3 FLAG (out), 4 GATE (out), 5 NC, 6 EN (in)

## mc34063ad
designator U?  (value not drawn)
Switching Voltage Regulators 1.5-A Boost/Buck Inverting Swtch Reg; Manufacturer Part Number: MC34063AD; Mouser Part #: 595-MC34063AD
footprint SOIC-8 (SOIC, 8-Leads, Body 4.90x3.90mm, Pitch 1.27mm, IPC Medium Density)
pins: 1 SW_Collector (io), 2 SW_Emitter (io), 3 Triming Capacitor, 4 GND, 5 COMP (in), 6 Vcc (power), 7 Ipk (in), 8 DRV_Coll (io)

## mcp2558FD
designator U?  (value not drawn)
CAN Interface IC CAN FD Transceiver with Silent Mode; Manufacturer Part Number: MCP2558FDT-H/MNY; Mouser Part #: 579-MCP2558FDT-H/MNY
footprint DFN8 3 x 2 x 0.75
pins: 1 Txd, 2 Vss, 3 Vdd, 4 Rxd, 5 Vio, 6 CANL, 7 CANH, 8 S, 9 EP

## MIC2026-1YM
designator U?, comment MIC2026-1YM-TR
Dual-channel power distribution switch; Manufacturer Part Number: MIC2026-1YM-TR; Mouser Part #: 998-MIC2026-1YMTR; Digi-Key Part Number: 576-1059-1-ND
footprint SO8_L (SOIC, 8-Leads, Body 4.9x3.9mm, Pitch 1.27mm, IPC High Density)
pins: 1 ENA (in), 2 FLGA (out), 3 FLGB (out), 4 ENB (in), 5 OUTB (out), 6 GND (power), 7 IN (power), 8 OUTA (out)

## MIC29302
designator *
footprint TO-263
footprint TO-252
pins: 1 EN (in), 2 VIN (power), 3 GND (power), 4 VOUT (out), 5 ADJ (in), 6 TAB (power)

## MPU-6050
designator U?, comment MPU6050
IMUs - Inertial Measurement Units 6-Axis MEMS MotionTracking Device with DMP; Mouser Part #: 410-MPU-6050; Manufacturer Part Number: MPU-6050
footprint QFN50P400X400X95_HS-25N (QFN, 24-Leads, Body 4.00x4.00mm, Pitch 0.50mm, Thermal Pad 2.60x2.70mm, IPC Medium Density)
pins: 1 CLKIN, 2 NC, 3 NC, 4 NC, 5 NC, 6 AUX_DA, 7 AUX_CL, 8 VLOGIC, 9 AD0, 10 REGOUT, 11 FSYNC, 12 INT, 13 VDD, 14 NC, 15 NC, 16 NC, 17 NC, 18 GND, 19 RESV, 20 CPOUT, 21 RESV, 22 RESV, 23 SCL, 24 SDA

## MS5611-01BA
designator U?  (value not drawn)
Pressure Sensors MS5611-BT M-CAPS 3X5X1MM T&R Board Mount; Manufacturer Part Number: MS561101BA03-50; Mouser Part #: 824-MS561101BA03-50
footprint MS5611-01BA
pins: 1 VDD, 2 PS, 3 GND, 4 CSB, 5 CSB, 6 SDO, 7 SDI/SDA, 8 SCLK

## NEO-M8P
designator *
footprint Ublox_M8 (GNSS Module Ublox_M8)
pins: 1 SAFEBOOT_N (in), 2 D_SEL (in), 3 TIMEPULSE (out), 4 EXTINT (in), 5 USB_DM (io), 6 USB_DP (io), 7 VDD_USB (power), 8 RESET_N (in), 9 VCC_RF (out), 10 GND (power), 11 RF_IN (in), 12 GND (power), 13 GND (power), 14 LNA_EN (out), 15 RTK_STAT (out), 16 GEOFENCE_STAT (out), 17 RESERVED, 18 SDA/SPI CS_N (io), 19 SDA/SPI CLK (io), 20 TXD/SPI MISO (out), 21 RXD/SPI MOSI (in), 22 V_BCKP (power), 23 VCC (power), 24 GND (power)

## NUP4201MR6
designator U?
IC,  500w 6v, Transient Voltage  Suppressors; Manufacturer Part Number: NUP4201MR6; Mouser Part #: 863-NUP4202W1T2G
footprint TSOP-6 (TSOP, 6-Leads, Body 3.00x1.50mm, Pitch 0.95mm, IPC Medium Density)
pins: 1 I/O, 2 VN, 3 I/O, 4 I/O, 5 VP, 6 I/O

## OPA2374AIDCN
designator U?
IC, CMOS, R-R I/O  Op Amp, Single Supply, 6.5MHz, 585uA; Manufacturer Part Number: OPA2374AIDCN; Mouser Part #: 595-OPA2374AIDCNR; Digi-Key Part Number: 296-18504-1-ND
footprint SOT23-8 (TSOP, 8-Leads, Body 2.90x1.60mm, Pitch 0.65mm, IPC Medium Density)
part A pins: 1 OUT, 2 A-, 3 A+, 4 V-, 8 V+
part B pins: 5 +B, 6 -B, 7 OUT

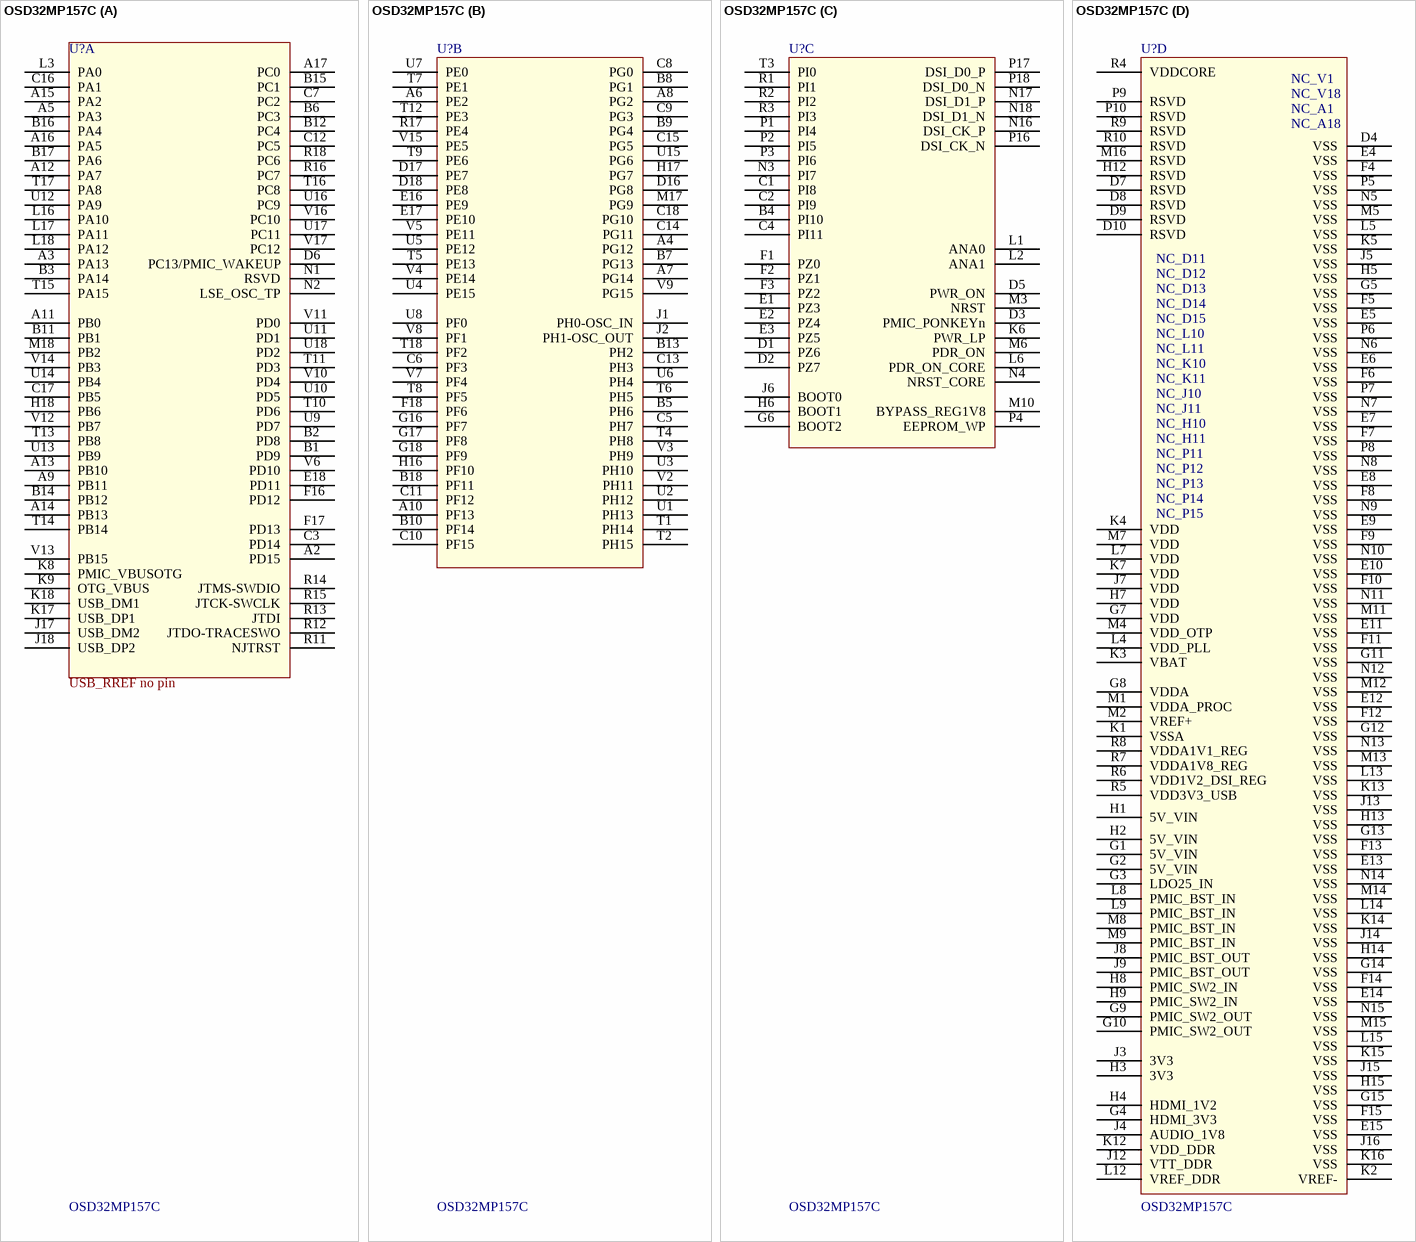
[diagram p4: symbol OSD32MP157C]

## OSD32MP157C
designator U?
MPU 18x18 SIP; Part_Type: IC; Manufacturer: Octavo; ECCN_US: TBD; Status: Footprint available; Manufacturer_Part_Number: OSD32MP157C; ComponentLink1Description: TBD; ComponentLink1URL: http://TBD; ECCN_EU: TBD; Provided_By: Octavo; Value: OSD32MP157C
footprint ICC_BGA324_18X18_OSD32MP157CAC3
part A pins: A2 PD15, A3 PA13, A5 PA3, A9 PB11, A11 PB0, A12 PA7, A13 PB10, A14 PB13, A15 PA2, A16 PA5, A17 PC0, B1 PD9, B2 PD8, B3 PA14, B6 PC3, B11 PB1, B12 PC4, B14 PB12, B15 PC1, B16 PA4, B17 PA6, C3 PD14, C7 PC2, C12 PC5, C16 PA1, C17 PB5, D6 PC13/PMIC_WAKEUP, E18 PD11, F16 PD12, F17 PD13, H18 PB6, J17 USB_DM2, J18 USB_DP2, K8 PMIC_VBUSOTG, K9 OTG_VBUS, K17 USB_DP1, K18 USB_DM1, L3 PA0, L16 PA10 "L16", L17 PA11, L18 PA12, M18 PB2, N1 RSVD, N2 LSE_OSC_TP, R11 NJTRST, R12 JTDO-TRACESWO, R13 JTDI, R14 JTMS-SWDIO, R15 JTCK-SWCLK, R16 PC7, R18 PC6, T10 PD6, T11 PD3, T13 PB8, T14 PB14, T15 PA15, T16 PC8, T17 PA8, U9 PD7, U10 PD5, U11 PD1, U12 PA9, U13 PB9, U14 PB4, U16 PC9, U17 PC11, U18 PD2, V6 PD10, V10 PD4, V11 PD0, V12 PB7, V13 PB15, V14 PB3, V16 PC10, V17 PC12
part B pins: A4 PG12, A6 PE2, A7 PG14, A8 PG2, A10 PF13, B5 PH6, B7 PG13, B8 PG1, B9 PG4, B10 PF14, B13 PH2, B18 PF11, C5 PH7, C6 PF3, C8 PG0, C9 PG3, C10 PF15, C11 PF12, C13 PH3, C14 PG11, C15 PG5, C18 PG10, D16 PG8, D17 PE7, D18 PE8, E16 PE9, E17 PE10, F18 PF6, G16 PF7, G17 PF8, G18 PF9, H16 PF10, H17 PG7, J1 PH0-OSC_IN, J2 PH1-OSC_OUT, M17 PG9, R17 PE4, T1 PH14, T2 PH15, T4 PH8, T5 PE13, T6 PH5, T7 PE1, T8 PF5, T9 PE6, T12 PE3, T18 PF2, U1 PH13, U2 PH12, U3 PH10, U4 PE15, U5 PE12, U6 PH4, U7 PE0, U8 PF0, U15 PG6, V2 PH11, V3 PH9, V4 PE14, V5 PE11, V7 PF4, V8 PF1, V9 PG15, V15 PE5
part C pins: B4 PI10, C1 PI8, C2 PI9, C4 PI11, D1 PZ6, D2 PZ7, D3 PMIC_PONKEYn, D5 PWR_ON, E1 PZ3, E2 PZ4, E3 PZ5, F1 PZ0, F2 PZ1, F3 PZ2, G6 BOOT2, H6 BOOT1, J6 BOOT0, K6 PWR_LP, L1 ANA0, L2 ANA1, L6 PDR_ON_CORE, M3 NRST, M6 PDR_ON, M10 BYPASS_REG1V8, N3 PI7, N4 NRST_CORE, N16 DSI_CK_P, N17 DSI_D1_P, N18 DSI_D1_N, P1 PI4, P2 PI5, P3 PI6, P4 EEPROM_WP, P16 DSI_CK_N, P17 DSI_D0_P, P18 DSI_D0_N, R1 PI1, R2 PI2, R3 PI3, T3 PI0
part D pins: D4 VSS, D7 RSVD, D8 RSVD, D9 RSVD, D10 RSVD, E4 VSS, E5 VSS, E6 VSS, E7 VSS, E8 VSS, E9 VSS, E10 VSS, E11 VSS, E12 VSS, E13 VSS, E14 VSS, E15 VSS, F4 VSS, F5 VSS, F6 VSS, F7 VSS, F8 VSS, F9 VSS, F10 VSS, F11 VSS, F12 VSS, F13 VSS, F14 VSS, F15 VSS, G1 5V_VIN, G2 5V_VIN, G3 LDO25_IN, G4 HDMI_3V3, G5 VSS, G7 VDD, G8 VDDA, G9 PMIC_SW2_OUT, G10 PMIC_SW2_OUT, G11 VSS, G12 VSS, G13 VSS, G14 VSS, G15 VSS, H1 5V_VIN, H2 5V_VIN, H3 3V3, H4 HDMI_1V2, H5 VSS, H7 VDD, H8 PMIC_SW2_IN, H9 PMIC_SW2_IN, H12 RSVD, H13 VSS, H14 VSS, H15 VSS, J3 3V3, J4 AUDIO_1V8, J5 VSS, J7 VDD, J8 PMIC_BST_OUT, J9 PMIC_BST_OUT, J12 VTT_DDR, J13 VSS, J14 VSS, J15 VSS, J16 VSS, K1 VSSA, K2 VREF-, K3 VBAT, K4 VDD, K5 VSS, K7 VDD, K12 VDD_DDR, K13 VSS, K14 VSS, K15 VSS, K16 VSS, L4 VDD_PLL, L5 VSS, L7 VDD, L8 PMIC_BST_IN, L9 PMIC_BST_IN, L12 VREF_DDR, L13 VSS, L14 VSS, L15 VSS, M1 VDDA_PROC, M2 VREF+, M4 VDD_OTP, M5 VSS, M7 VDD, M8 PMIC_BST_IN, M9 PMIC_BST_IN, M11 VSS, M12 VSS, M13 VSS, M14 VSS, M15 VSS, M16 RSVD, N5 VSS, N6 VSS, N7 VSS, N8 VSS, N9 VSS, N10 VSS, N11 VSS, N12 VSS, N13 VSS, N14 VSS, N15 VSS, P5 VSS, P6 VSS, P7 VSS, P8 VSS, P9 RSVD, P10 RSVD, R4 VDDCORE, R5 VDD3V3_USB, R6 VDD1V2_DSI_REG, R7 VDDA1V8_REG, R8 VDDA1V1_REG, R9 RSVD, R10 RSVD
part A text: USB_RREF no pin
part D text: NC_V1; NC_V18; NC_A1; NC_A18; NC_D11; NC_D12; NC_D13; NC_D14; NC_D15; NC_L10; NC_L11; NC_K10; NC_K11; NC_J10; NC_J11; NC_H10; NC_H11; NC_P11; NC_P12; NC_P13; NC_P14; NC_P15

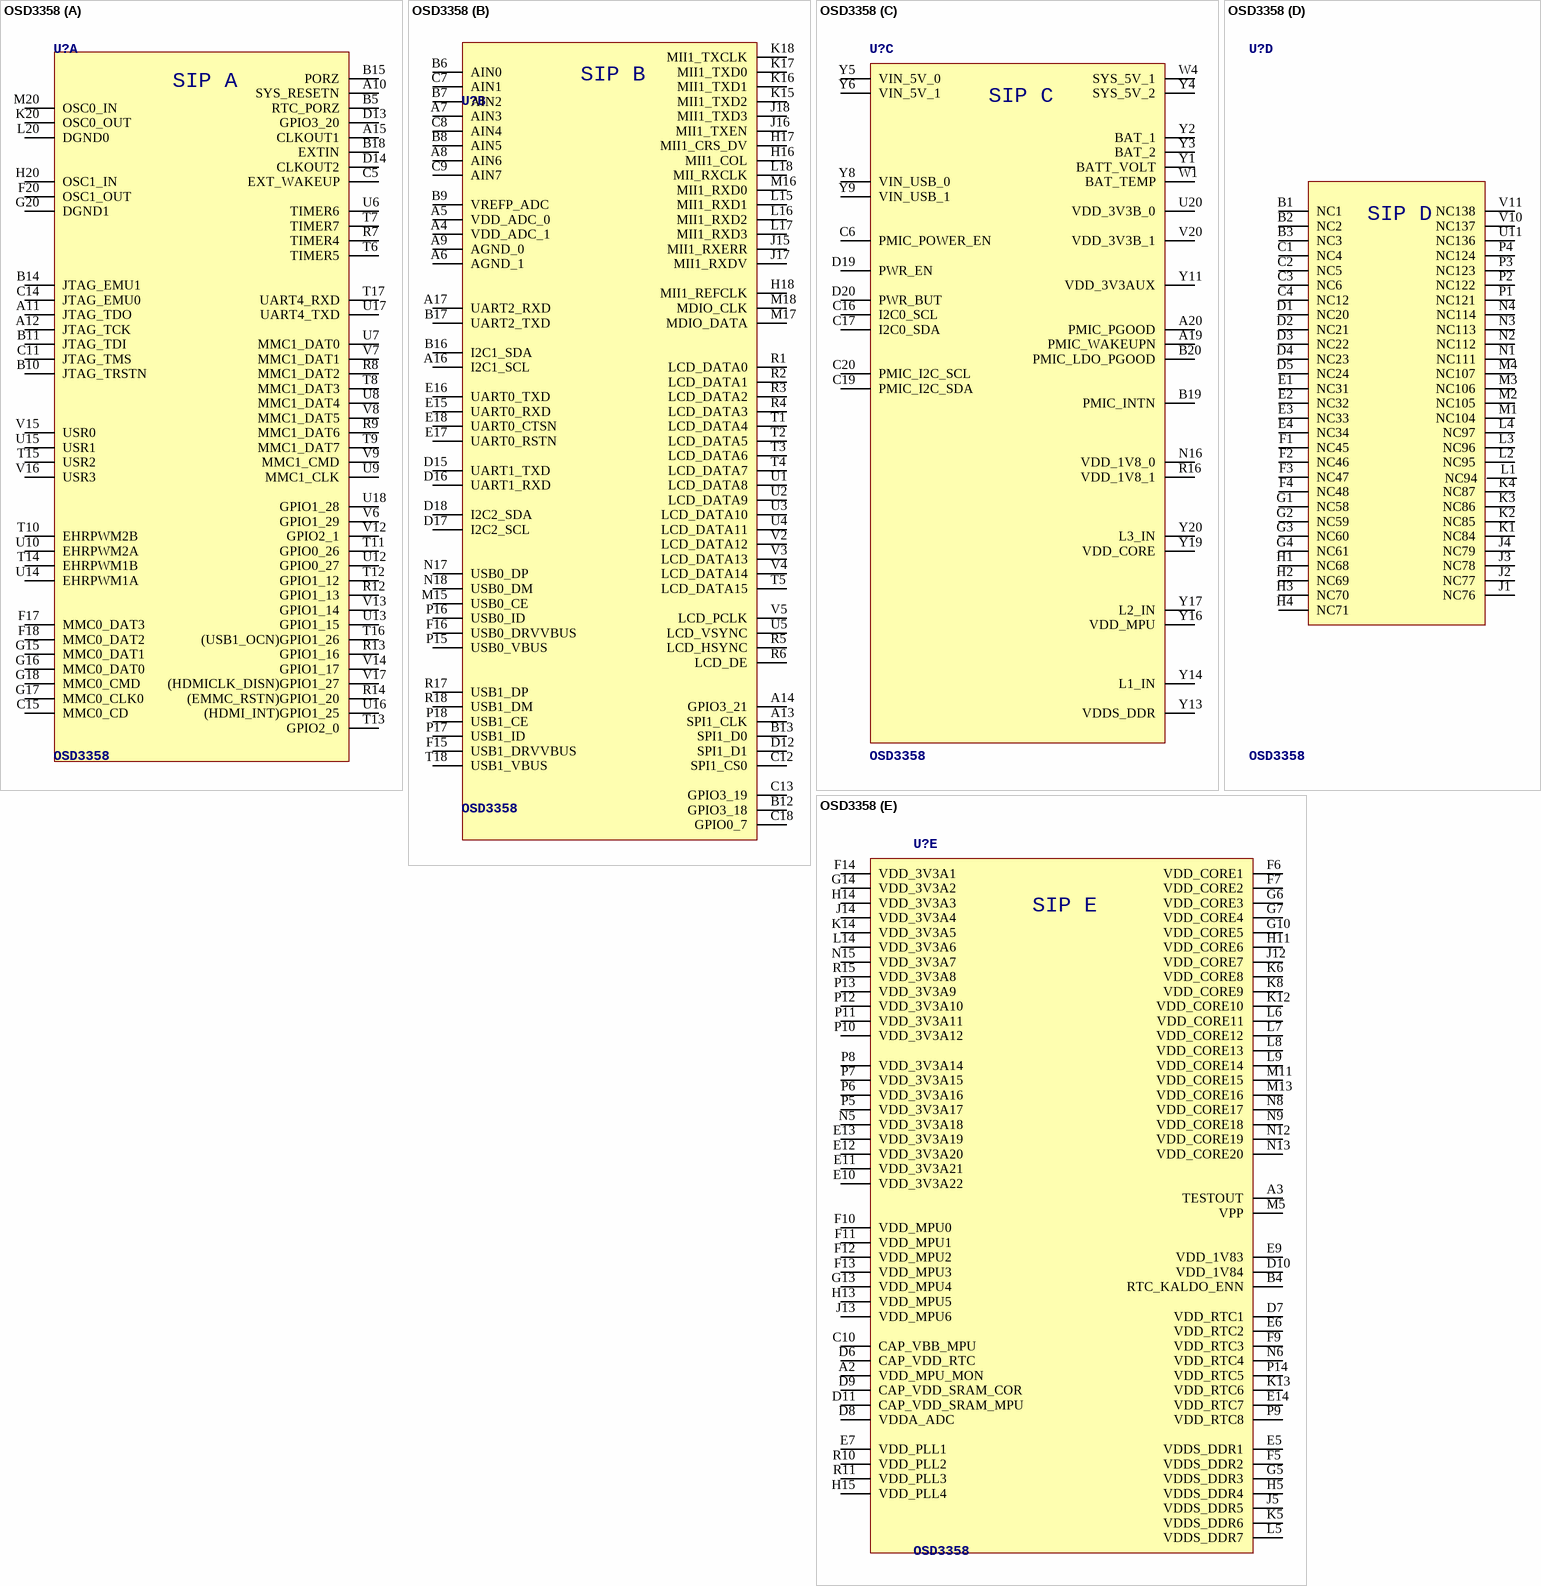
[diagram p5: symbol OSD3358]

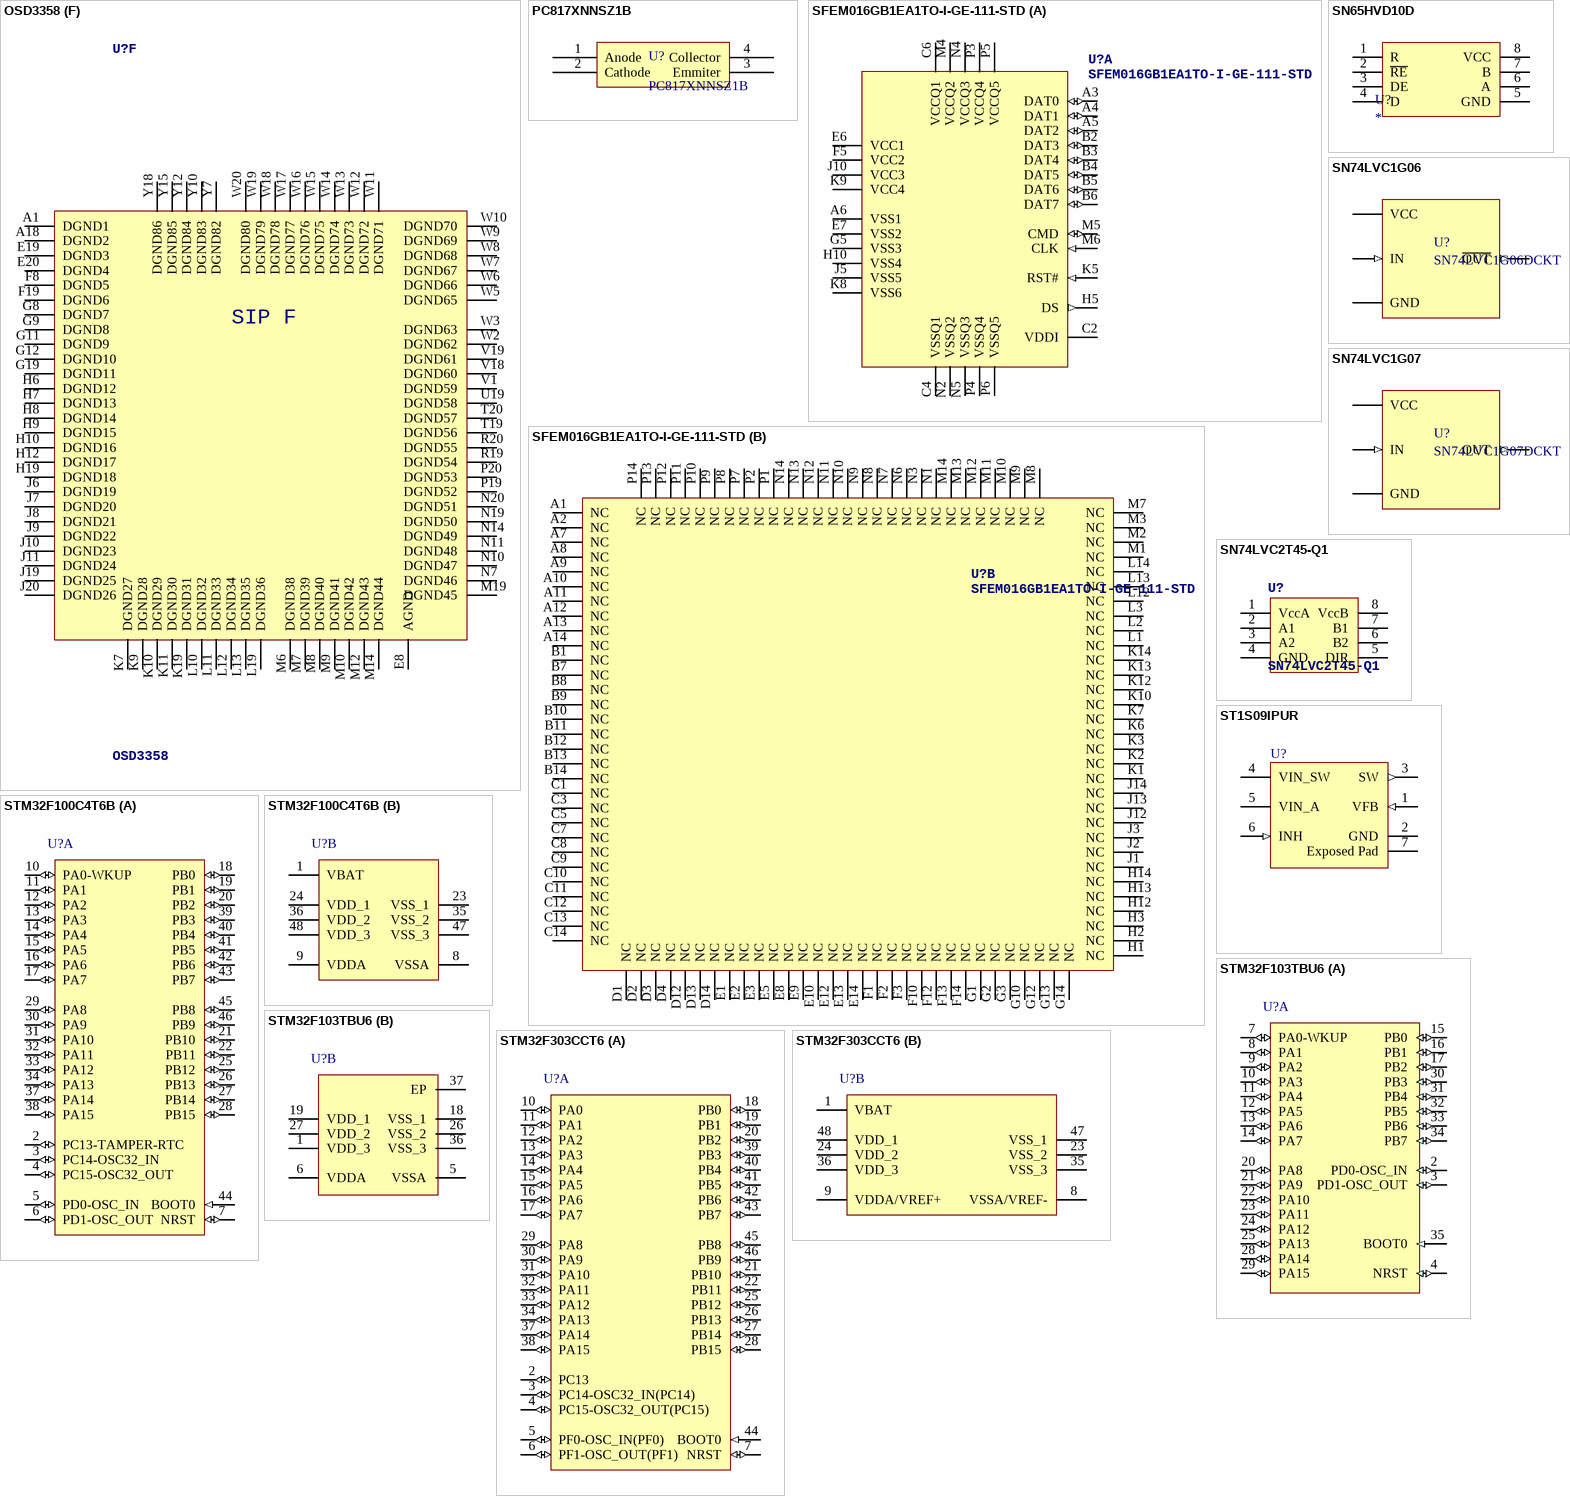
[diagram p6: symbols OSD3358 to STM32F303CCT6]

## OSD3358
designator U?
Supplier 1: Digi-Key; Supplier Part Number 1: 1676-1001-ND
footprint OSD3358
part A pins: A10 SYS_RESETN, A11 JTAG_TDO, A12 JTAG_TCK, A15 CLKOUT1, B5 RTC_PORZ, B10 JTAG_TRSTN, B11 JTAG_TDI, B14 JTAG_EMU1, B15 PORZ, B18 EXTIN, C5 EXT_WAKEUP, C11 JTAG_TMS, C14 JTAG_EMU0, C15 MMC0_CD, D13 GPIO3_20, D14 CLKOUT2, F17 MMC0_DAT3, F18 MMC0_DAT2, F20 OSC1_OUT, G15 MMC0_DAT1, G16 MMC0_DAT0, G17 MMC0_CLK0, G18 MMC0_CMD, G20 DGND1, H20 OSC1_IN, K20 OSC0_OUT, L20 DGND0, M20 OSC0_IN, R7 TIMER4, R8 MMC1_DAT2, R9 MMC1_DAT6, R12 GPIO1_13, R13 GPIO1_16, R14 (EMMC_RSTN)GPIO1_20, T6 TIMER5, T7 TIMER7, T8 MMC1_DAT3, T9 MMC1_DAT7, T10 EHRPWM2B, T11 GPIO0_26, T12 GPIO1_12, T13 GPIO2_0, T14 EHRPWM1B, T15 USR2, T16 (USB1_OCN)GPIO1_26, T17 UART4_RXD, U6 TIMER6, U7 MMC1_DAT0, U8 MMC1_DAT4, U9 MMC1_CLK, U10 EHRPWM2A, U12 GPIO0_27, U13 GPIO1_15, U14 EHRPWM1A, U15 USR1, U16 (HDMI_INT)GPIO1_25, U17 UART4_TXD, U18 GPIO1_28, V6 GPIO1_29, V7 MMC1_DAT1, V8 MMC1_DAT5, V9 MMC1_CMD, V12 GPIO2_1, V13 GPIO1_14, V14 GPIO1_17, V15 USR0, V16 USR3, V17 (HDMICLK_DISN)GPIO1_27
part B pins: A4 VDD_ADC_1, A5 VDD_ADC_0, A6 AGND_1, A7 AIN3, A8 AIN6, A9 AGND_0, A13 SPI1_CLK, A14 GPIO3_21, A16 I2C1_SCL, A17 UART2_RXD, B6 AIN0, B7 AIN2, B8 AIN5, B9 VREFP_ADC, B12 GPIO3_18, B13 SPI1_D0, B16 I2C1_SDA, B17 UART2_TXD, C7 AIN1, C8 AIN4, C9 AIN7, C12 SPI1_CS0, C13 GPIO3_19, C18 GPIO0_7, D12 SPI1_D1, D15 UART1_TXD, D16 UART1_RXD, D17 I2C2_SCL, D18 I2C2_SDA, E15 UART0_RXD, E16 UART0_TXD, E17 UART0_RSTN, E18 UART0_CTSN, F15 USB1_DRVVBUS, F16 USB0_DRVVBUS, H16 MII1_COL, H17 MII1_CRS_DV, H18 MII1_REFCLK, J15 MII1_RXERR, J16 MII1_TXEN, J17 MII1_RXDV, J18 MII1_TXD3, K15 MII1_TXD2, K16 MII1_TXD1, K17 MII1_TXD0, K18 MII1_TXCLK, L15 MII1_RXD1, L16 MII1_RXD2, L17 MII1_RXD3, L18 MII_RXCLK, M15 USB0_CE, M16 MII1_RXD0, M17 MDIO_DATA, M18 MDIO_CLK, N17 USB0_DP, N18 USB0_DM, P15 USB0_VBUS, P16 USB0_ID, P17 USB1_ID, P18 USB1_CE, R1 LCD_DATA0, R2 LCD_DATA1, R3 LCD_DATA2, R4 LCD_DATA3, R5 LCD_HSYNC, R6 LCD_DE, R17 USB1_DP, R18 USB1_DM, T1 LCD_DATA4, T2 LCD_DATA5, T3 LCD_DATA6, T4 LCD_DATA7, T5 LCD_DATA15, T18 USB1_VBUS, U1 LCD_DATA8, U2 LCD_DATA9, U3 LCD_DATA10, U4 LCD_DATA11, U5 LCD_VSYNC, V2 LCD_DATA12, V3 LCD_DATA13, V4 LCD_DATA14, V5 LCD_PCLK
part C pins: A19 PMIC_WAKEUPN, A20 PMIC_PGOOD, B19 PMIC_INTN, B20 PMIC_LDO_PGOOD, C6 PMIC_POWER_EN, C16 I2C0_SCL, C17 I2C0_SDA, C19 PMIC_I2C_SDA, C20 PMIC_I2C_SCL, D19 PWR_EN, D20 PWR_BUT, N16 VDD_1V8_0, R16 VDD_1V8_1, U20 VDD_3V3B_0, V20 VDD_3V3B_1, W1 BAT_TEMP, W4 SYS_5V_1, Y1 BATT_VOLT, Y2 BAT_1, Y3 BAT_2, Y4 SYS_5V_2, Y5 VIN_5V_0, Y6 VIN_5V_1, Y8 VIN_USB_0, Y9 VIN_USB_1, Y11 VDD_3V3AUX, Y13 VDDS_DDR, Y14 L1_IN, Y16 VDD_MPU, Y17 L2_IN, Y19 VDD_CORE, Y20 L3_IN
part D pins: B1 NC1, B2 NC2, B3 NC3, C1 NC4, C2 NC5, C3 NC6, C4 NC12, D1 NC20, D2 NC21, D3 NC22, D4 NC23, D5 NC24, E1 NC31, E2 NC32, E3 NC33, E4 NC34, F1 NC45, F2 NC46, F3 NC47, F4 NC48, G1 NC58, G2 NC59, G3 NC60, G4 NC61, H1 NC68, H2 NC69, H3 NC70, H4 NC71, J1 NC76, J2 NC77, J3 NC78, J4 NC79, K1 NC84, K2 NC85, K3 NC86, K4 NC87, L1 NC94, L2 NC95, L3 NC96, L4 NC97, M1 NC104, M2 NC105, M3 NC106, M4 NC107, N1 NC111, N2 NC112, N3 NC113, N4 NC114, P1 NC121, P2 NC122, P3 NC123, P4 NC124, U11 NC136, V10 NC137, V11 NC138
part E pins: A2 VDD_MPU_MON, A3 TESTOUT, B4 RTC_KALDO_ENN, C10 CAP_VBB_MPU, D6 CAP_VDD_RTC, D7 VDD_RTC1, D8 VDDA_ADC, D9 CAP_VDD_SRAM_COR, D10 VDD_1V84, D11 CAP_VDD_SRAM_MPU, E5 VDDS_DDR1, E6 VDD_RTC2, E7 VDD_PLL1, E9 VDD_1V83, E10 VDD_3V3A22, E11 VDD_3V3A21, E12 VDD_3V3A20, E13 VDD_3V3A19, E14 VDD_RTC7, F5 VDDS_DDR2, F6 VDD_CORE1, F7 VDD_CORE2, F9 VDD_RTC3, F10 VDD_MPU0, F11 VDD_MPU1, F12 VDD_MPU2, F13 VDD_MPU3, F14 VDD_3V3A1, G5 VDDS_DDR3, G6 VDD_CORE3, G7 VDD_CORE4, G10 VDD_CORE5, G13 VDD_MPU4, G14 VDD_3V3A2, H5 VDDS_DDR4, H11 VDD_CORE6, H13 VDD_MPU5, H14 VDD_3V3A3, H15 VDD_PLL4, J5 VDDS_DDR5, J12 VDD_CORE7, J13 VDD_MPU6, J14 VDD_3V3A4, K5 VDDS_DDR6, K6 VDD_CORE8, K8 VDD_CORE9, K12 VDD_CORE10, K13 VDD_RTC6, K14 VDD_3V3A5, L5 VDDS_DDR7, L6 VDD_CORE11, L7 VDD_CORE12, L8 VDD_CORE13, L9 VDD_CORE14, L14 VDD_3V3A6, M5 VPP, M11 VDD_CORE15, M13 VDD_CORE16, N5 VDD_3V3A18, N6 VDD_RTC4, N8 VDD_CORE17, N9 VDD_CORE18, N12 VDD_CORE19, N13 VDD_CORE20, N15 VDD_3V3A7, P5 VDD_3V3A17, P6 VDD_3V3A16, P7 VDD_3V3A15, P8 VDD_3V3A14, P9 VDD_RTC8, P10 VDD_3V3A12, P11 VDD_3V3A11, P12 VDD_3V3A10, P13 VDD_3V3A9, P14 VDD_RTC5, R10 VDD_PLL2, R11 VDD_PLL3, R15 VDD_3V3A8
part F pins: A1 DGND1, A18 DGND2, E8 AGND, E19 DGND3, E20 DGND4, F8 DGND5, F19 DGND6, G8 DGND7, G9 DGND8, G11 DGND9, G12 DGND10, G19 DGND11, H6 DGND12, H7 DGND13, H8 DGND14, H9 DGND15, H10 DGND16, H12 DGND17, H19 DGND18, J6 DGND19, J7 DGND20, J8 DGND21, J9 DGND22, J10 DGND23, J11 DGND24, J19 DGND25, J20 DGND26, K7 DGND27, K9 DGND28, K10 DGND29, K11 DGND30, K19 DGND31, L10 DGND32, L11 DGND33, L12 DGND34, L13 DGND35, L19 DGND36, M6 DGND38, M7 DGND39, M8 DGND40, M9 DGND41, M10 DGND42, M12 DGND43, M14 DGND44, M19 DGND45, N7 DGND46, N10 DGND47, N11 DGND48, N14 DGND49, N19 DGND50, N20 DGND51, P19 DGND52, P20 DGND53, R19 DGND54, R20 DGND55, T19 DGND56, T20 DGND57, U19 DGND58, V1 DGND59, V18 DGND60, V19 DGND61, W2 DGND62, W3 DGND63, W5 DGND65, W6 DGND66, W7 DGND67, W8 DGND68, W9 DGND69, W10 DGND70, W11 DGND71, W12 DGND72, W13 DGND73, W14 DGND74, W15 DGND75, W16 DGND76, W17 DGND77, W18 DGND78, W19 DGND79, W20 DGND80, Y7 DGND82, Y10 DGND83, Y12 DGND84, Y15 DGND85, Y18 DGND86
part A text: SIP A
part B text: SIP B
part C text: SIP C
part D text: SIP D
part E text: SIP E
part F text: SIP F

## PC817XNNSZ1B
designator U?
Transistor Output Optocouplers Photocoupler; Manufacturer Part Number: PC817XNNSZ1B; Mouser Part #: 852-PC817XNNSZ1B
footprint DIP-4 (DIP; 4 Leads; Row Spacing 7.62 mm; Pitch 2.54 mm)
footprint SO-4 (Package SMD SO4. Used for a Photocouplers with Transistor)
pins: 1 Anode (power), 2 Cathode, 3 Emmiter, 4 Collector

## SFEM016GB1EA1TO-I-GE-111-STD
designator U?
eMMC Memory 16GB E-MMC MLC EM-20 IND; Mouser Part #: 922-500530; Digi-Key Part Number: 1052-1328-ND; Manufacturer Part Number: SFEM016GB1EA1TO-I-GE-111-STD
footprint MICRON_EMMC_153
part A pins: A3 DAT0 (io), A4 DAT1 (io), A5 DAT2 (io), A6 VSS1 (power), B2 DAT3 (io), B3 DAT4 (io), B4 DAT5 (io), B5 DAT6 (io), B6 DAT7 (io), C2 VDDI, C4 VSSQ1 (power), C6 VCCQ1 (power), E6 VCC1 (power), E7 VSS2 (power), F5 VCC2 (power), G5 VSS3 (power), H5 DS (out), H10 VSS4 (power), J5 VSS5 (power), J10 VCC3 (power), K5 RST# (in), K8 VSS6 (power), K9 VCC4 (power), M4 VCCQ2 (power), M5 CMD (io), M6 CLK (in), N2 VSSQ2 (power), N4 VCCQ3 (power), N5 VSSQ3 (power), P3 VCCQ4 (power), P4 VSSQ4 (power), P5 VCCQ5 (power), P6 VSSQ5 (power)
part B pins: A1 NC, A2 NC, A7 NC, A8 NC, A9 NC, A10 NC, A11 NC, A12 NC, A13 NC, A14 NC, B1 NC, B7 NC, B8 NC, B9 NC, B10 NC, B11 NC, B12 NC, B13 NC, B14 NC, C1 NC, C3 NC, C5 NC, C7 NC, C8 NC, C9 NC, C10 NC, C11 NC, C12 NC, C13 NC, C14 NC, D1 NC, D2 NC, D3 NC, D4 NC, D12 NC, D13 NC, D14 NC, E1 NC, E2 NC, E3 NC, E5 NC, E8 NC, E9 NC, E10 NC, E12 NC, E13 NC, E14 NC, F1 NC, F2 NC, F3 NC, F10 NC, F12 NC, F13 NC, F14 NC, G1 NC, G2 NC, G3 NC, G10 NC, G12 NC, G13 NC, G14 NC, H1 NC, H2 NC, H3 NC, H12 NC, H13 NC, H14 NC, J1 NC, J2 NC, J3 NC, J12 NC, J13 NC, J14 NC, K1 NC, K2 NC, K3 NC, K6 NC, K7 NC, K10 NC, K12 NC, K13 NC, K14 NC, L1 NC, L2 NC, L3 NC, L12 NC, L13 NC, L14 NC, M1 NC, M2 NC, M3 NC, M7 NC, M8 NC, M9 NC, M10 NC, M11 NC, M12 NC, M13 NC, M14 NC, N1 NC, N3 NC, N6 NC, N7 NC, N8 NC, N9 NC, N10 NC, N11 NC, N12 NC, N13 NC, N14 NC, P1 NC, P2 NC, P7 NC, P8 NC, P9 NC, P10 NC, P11 NC, P12 NC, P13 NC, P14 NC

## SN65HVD10D
designator U?
Mouser Part #: 595-SN65HVD10D; Digi-Key Part Number: 296-12645-5-ND
footprint SOIC127P600X175-8N (SOIC, 8-Leads, Body 4.90x3.90mm, Pitch 1.27mm, IPC Medium Density)
pins: 1 R, 2 ~{RE}, 3 DE, 4 D, 5 GND, 6 A, 7 B, 8 VCC

## SN74LVC1G06
designator U?, comment SN74LVC1G06DCKT
Mouser Part #: 595-SN74LVC1G06DCKT; Digi-Key Part Number: 296-32290-1-ND; Manufacturer Part Number: SN74LVC1G06DCKT
footprint SC70(TI-DCK)
pins: 2 IN (in), 3 GND (power), 4 ~{OUT} (out), 5 VCC (power)

## SN74LVC1G07
designator U?, comment SN74LVC1G07DCKT
Mouser Part #: 595-SN74LVC1G07DCKT; Digi-Key Part Number: 296-26591-1-ND; Manufacturer Part Number: SN74LVC1G07DCKT
footprint SC70(TI-DCK)
pins: 2 IN (in), 3 GND (power), 4 OUT (out), 5 VCC (power)

## SN74LVC2T45-Q1
designator U?
Translation - Voltage Levels AC DualB Dual Supply Xcvr; Manufacturer Part Number: SN74LVC2T45QDCURQ1; Mouser Part #: 595-74LVC2T45QDCURQ1
footprint VSSOP8(TI)
pins: 1 VccA "Supply voltage A", 2 A1, 3 A2, 4 GND, 5 DIR, 6 B2, 7 B1, 8 VccB "Supply voltage A"

## ST1S09IPUR
designator U?
Synchronous rectification with inhibit, 2 A, 1.5 MHz adjustable, step-down switching regulator, 6-Pin DFN, Tape and Reel; Manufacturer Part Number: ST1S09IPUR; Mouser Part #: 511-ST1S09IPUR; Digikey Part Number: 497-6903-1-ND
footprint DFN6D_N (SON, 6-Leads, Body 3x3mm, Pitch 0.95mm, Thermal Pad 2.4x1.65mm, IPC Medium Density)
pins: 1 VFB (in), 2 GND (power), 3 SW (out), 4 VIN_SW (power), 5 VIN_A (power), 6 INH (in), 7 Exposed Pad (power)

## STM32F100C4T6B
designator U?
ARM Cortex-M3 32-bit MCU, 16 KB Flash, 4 KB Internal RAM, 37 I/Os, 48-pin LQFP, -40 to 85 degC, Tray; Manufacturer Part Number: STM32F100C4T6B; Mouser Part #: 511-STM32F100C4T6B; Digi-Key Part Number: 497-10501-ND; Arrow Link: https://www.arrow.com/en/products/stm32f100c4t6b/stmicroelectronics
footprint STM-LQFP48_N (QFP, 48-Leads, Body 7x7mm, Pitch 0.5mm, IPC Medium Density)
footprint STM-LQFP48_L (QFP, 48-Leads, Body 7x7mm, Pitch 0.5mm, IPC High Density)
footprint STM-LQFP48_M (QFP, 48-Leads, Body 7x7mm, Pitch 0.5mm, IPC Low Density)
footprint STM-LQFP48_N (QFP, 48-Leads, Body 7x7mm, Pitch 0.5mm, IPC Medium Density)
part A pins: 2 PC13-TAMPER-RTC (io) "PC13-TAMPER-RTC/PC13/TAMPER-RTC", 3 PC14-OSC32_IN (io) "PC14-OSC32_IN/PC14/OSC32_IN", 4 PC15-OSC32_OUT (io) "PC15-OSC32_OUT/PC15/OSC32_OUT", 5 PD0-OSC_IN (io) "PD0/OSC_IN", 6 PD1-OSC_OUT (io) "PD1/OSC_OUT", 7 NRST (io), 10 PA0-WKUP (io) "PA0-WKUP/PA0/WKUP/USART2_CTS/ADC1_IN0/TIM2_CH1_ETR", 11 PA1 (io) "PA1/USART2_RTS/ADC1_IN1/TIM2_CH2", 12 PA2 (io) "PA2/USART2_TX/ADC1_IN2/TIM2_CH3/TIM15_CH1", 13 PA3 (io) "PA3/USART2_RX/ADC1_IN3/TIM2_CH4/TIM15_CH2", 14 PA4 (io) "PA4/SPI1_NSS/ADC1_IN4/USART2_CK/DAC1_OUT", 15 PA5 (io) "PA5/SPI1_SCK/ADC1_IN5/DAC2_OUT", 16 PA6 (io) "PA6/SPI1_MISO/ADC1_IN6/TIM3_CH1/TIM1_BKIN/TIM16_CH1", 17 PA7 (io) "PA7/SPI1_MOSI/ADC1_IN7/TIM3_CH2/TIM1_CH1N/TIM17_CH1", 18 PB0 (io) "PB0/ADC1_IN8/TIM3_CH3/TIM1_CH2N", 19 PB1 (io) "PB1/ADC1_IN9/TIM3_CH4/TIM1_CH3N", 20 PB2 (io) "PB2/BOOT1", 21 PB10 (io) "PB10/I2C2_SCL/USART3_TX/TIM2_CH3/HDMI_CEC", 22 PB11 (io) "PB11/I2C2_SDA/USART3_RX/TIM2_CH4", 25 PB12 (io) "PB12/SPI2_NSS/I2C2_SMBA/TIM1_BKIN/USART3_CK", 26 PB13 (io) "PB13/SPI2_SCK/TIM1_CH1N/USART3_CTS", 27 PB14 (io) "PB14/SPI2_MISO/TIM1_CH2N/USART3_RTS/TIM15_CH1", 28 PB15 (io) "PB15/SPI2_MOSI/TIM1_CH3N/TIM15_CH1N/TIM15_CH2", 29 PA8 (io) "PA8/USART1_CK/MCO/TIM1_CH1", 30 PA9 (io) "PA9/USART1_TX/TIM1_CH2/TIM15_BKIN", 31 PA10 (io) "PA10/USART1_RX/TIM1_CH3/TIM17_BKIN", 32 PA11 (io) "PA11/USART1_CTS/TIM1_CH4", 33 PA12 (io) "PA12/USART1_RTS/TIM1_ETR", 34 PA13 (io) "PA13/JTMS-SWDIO", 37 PA14 (io) "PA14/JTCK/SWCLK", 38 PA15 (io) "PA15/JTDI/TIM2_CH1_ETR/SPI1_NSS", 39 PB3 (io) "PB3/JTDO/TIM2_CH2/TRACESWO/SPI1_SCK", 40 PB4 (io) "PB4/NJTRST/TIM3_CH1/SPI1_MISO", 41 PB5 (io) "PB5/I2C1_SMBA/TIM16_BKIN/TIM3_CH2/SPI1_MOSI", 42 PB6 (io) "PB6/I2C1_SCL/TIM4_CH1/TIM16_CH1N/USART1_TX", 43 PB7 (io) "PB7/I2C1_SDA/TIM17_CH1N/TIM4_CH2/USART1_RX", 44 BOOT0 (in), 45 PB8 (io) "PB8/TIM4_CH3/TIM16_CH1/CEC/I2C1_SCL", 46 PB9 (io) "PB9/TIM4_CH4/TIM17_CH1/I2C1_SDA"
part B pins: 1 VBAT (power), 8 VSSA (power), 9 VDDA (power), 23 VSS_1 (power), 24 VDD_1 (power), 35 VSS_2 (power), 36 VDD_2 (power), 47 VSS_3 (power), 48 VDD_3 (power)

## STM32F103TBU6
designator U?
ARM Cortex-M3 32-bit MCU, 128 KB Flash, 20 KB Internal RAM, 26 I/Os, 36-pin VFQFPN, -40 to 85 degC, Tray; Manufacturer Part Number: STM32F103TBU6; Mouser Part #: 511-STM32F103TBU6; DigiKey Part Number: 497-11534-ND
footprint STM-VFQFPN36_L (QFN, 36-Leads, Body 6.13x6.13mm, Pitch 0.5mm, Thermal Pad 3x3mm, IPC High Density)
footprint STM-VFQFPN36_M (QFN, 36-Leads, Body 6.13x6.13mm, Pitch 0.5mm, Thermal Pad 3x3mm, IPC Low Density)
footprint STM-VFQFPN36_N (QFN, 36-Leads, Body 6.13x6.13mm, Pitch 0.5mm, Thermal Pad 3x3mm, IPC Medium Density)
part A pins: 2 PD0-OSC_IN (io) "PD0/OSC_IN/CANRX", 3 PD1-OSC_OUT (io) "PD1/OSC_OUT/CANTX", 4 NRST (io), 7 PA0-WKUP (io) "PA0-WKUP/PA0/WKUP/USART2_CTS/ADC12_IN0/TIM2_CH1_ETR", 8 PA1 (io) "PA1/USART2_RTS/ADC12_IN1/TIM2_CH2", 9 PA2 (io) "PA2/USART2_TX/ADC12_IN2/TIM2_CH3", 10 PA3 (io) "PA3/USART2_RX/ADC12_IN3/TIM2_CH4", 11 PA4 (io) "PA4/SPI1_NSS/USART2_CK/ADC12_IN4", 12 PA5 (io) "PA5/SPI1_SCK/ADC12_IN5", 13 PA6 (io) "PA6/SPI1_MISO/ADC12_IN6/TIM3_CH1/TIM1_BKIN", 14 PA7 (io) "PA7/SPI1_MOSI/ADC12_IN7/TIM3_CH2/TIM1_CH1N", 15 PB0 (io) "PB0/ADC12_IN8/TIM3_CH3/TIM1_CH2N", 16 PB1 (io) "PB1/ADC12_IN9/TIM3_CH4/TIM1_CH3N", 17 PB2 (io) "PB2/BOOT1", 20 PA8 (io) "PA8/USART1_CK/TIM1_CH1/MCO", 21 PA9 (io) "PA9/USART1_TX/TIM1_CH2", 22 PA10 (io) "PA10/USART1_RX/TIM1_CH3", 23 PA11 (io) "PA11/USART1_CTS/CANRX/USBDM/TIM1_CH4", 24 PA12 (io) "PA12/USART1_RTS/CANTX/USBDP/TIM1_ETR", 25 PA13 (io) "PA13/JTMS/SWDIO", 28 PA14 (io) "PA14/JTCK/SWCLK", 29 PA15 (io) "PA15/JTDI/TIM2_CH1_ETR/SPI1_NSS", 30 PB3 (io) "PB3/JTDO/TIM2_CH2/TRACESWO/SPI1_SCK", 31 PB4 (io) "PB4/NJTRST/TIM3_CH1/SPI1_MISO", 32 PB5 (io) "PB5/I2C1_SMBAI/TIM3_CH2/SPI1_MOSI", 33 PB6 (io) "PB6/I2C1_SCL/TIM4_CH1/USART1_TX", 34 PB7 (io) "PB7/I2C1_SDA/TIM4_CH2/USART1_RX", 35 BOOT0 (in)
part B pins: 1 VDD_3 (power), 5 VSSA (power), 6 VDDA (power), 18 VSS_1 (power), 19 VDD_1 (power), 26 VSS_2 (power), 27 VDD_2 (power), 36 VSS_3 (power), 37 EP (power)

## STM32F303CCT6
designator U?
ARM Cortex-M4 32-bit MCU, 256 KB Flash, 40 KB Internal RAM, 37 I/Os, 48-pin LQFP, -40 to 85 degC, Tray; Manufacturer Part Number: STM32F303CCT6; Digi-Key Part Number: 497-13318-ND; Mouser Part #: 511-STM32F303CCT6
footprint STM-LQFP48_M (QFP, 48-Leads, Body 7x7mm, Pitch 0.5mm, IPC Low Density)
part A pins: 2 PC13 (io) "PC13/TIM1_CH1N/WKUP2,RTC_TAMP1,RTC_TS,RTC_OUT", 3 PC14-OSC32_IN(PC14) (io) "PC14-OSC32_IN(PC14)/OSC32_IN", 4 PC15-OSC32_OUT(PC15) (io) "PC15-OSC32_OUT(PC15)/OSC32_OUT", 5 PF0-OSC_IN(PF0) (io) "PF0-OSC_IN(PF0)/TIM1_CH3N,I2C2_SDA/OSC_IN", 6 PF1-OSC_OUT(PF1) (io) "PF1-OSC_OUT(PF1)/I2C2_SCL/OSC_OUT", 7 NRST (io) "Device reset input / internal reset output (active low)", 10 PA0 (io) "PA0/USART2_CTS,TIM2_CH1_ETR,TIM8_BKIN,TIM8_ETR,TSC_G1_IO1,COMP1_OUT,EVENTOUT/ADC1_IN1,COMP1_INM,RTC_TAMP2,WKUP1,COMP7_INP", 11 PA1 (io) "PA1/USART2_RTS,TIM2_CH2,TSC_G1_IO2,TIM15_CH1N,RTC_REFIN,EVENTOUT/ADC1_IN2,COMP1_INP,OPAMP1_VINP,OPAMP3_VINP", 12 PA2 (io) "PA2/USART2_TX,TIM2_CH3,TIM15_CH1,TSC_G1_IO3,COMP2_OUT,EVENTOUT/ADC1_IN3,COMP2_INM,OPAMP1_VOUT", 13 PA3 (io) "PA3/USART2_RX,TIM2_CH4,TIM15_CH2,TSC_G1_IO4,EVENTOUT/ADC1_IN4,OPAMP1_VINP,COMP2_INP,OPAMP1_VINM", 14 PA4 (io) "PA4/SPI1_NSS,SPI3_NSS,I2S3_WS,USART2_CK,TSC_G2_IO1,TIM3_CH2,EVENTOUT/ADC2_IN1,DAC1_OUT1,OPAMP4_VINP,COMP1_INM,COMP2_INM,COMP3_INM,COMP4_INM,COMP5_INM,COMP6_INM,COMP7_INM", 15 PA5 (io) "PA5/SPI1_SCK,TIM2_CH1_ETR,TSC_G2_IO2,EVENTOUT/ADC2_IN2,DAC1_OUT2,OPAMP1_VINP,OPAMP2_VINM,OPAMP3_VINP,COMP1_INM,COMP2_INM,COMP3_INM,COMP4_INM,COMP5_INM,COMP6_INM,COMP7_INM", 16 PA6 (io) "PA6/SPI1_MISO,TIM3_CH1,TIM8_BKIN,TIM1_BKIN,TIM16_CH1,COMP1_OUT,TSC_G2_IO3,EVENTOUT/ADC2_IN3,OPAMP2_VOUT", 17 PA7 (io) "PA7/SPI1_MOSI,TIM3_CH2,TIM17_CH1,TIM1_CH1N,TIM8_CH1N,TSC_G2_IO4,COMP2_OUT,EVENTOUT/ADC2_IN4,COMP2_INP,OPAMP2_VINP,OPAMP1_VINP", 18 PB0 (io) "PB0/TIM3_CH3,TIM1_CH2N,TIM8_CH2N,TSC_G3_IO2,EVENTOUT/ADC3_IN12,COMP4_INP,OPAMP3_VINP,OPAMP2_VINP", 19 PB1 (io) "PB1/TIM3_CH4,TIM1_CH3N,TIM8_CH3N,COMP4_OUT,TSC_G3_IO3,EVENTOUT/ADC3_IN1,OPAMP3_VOUT", 20 PB2 (io) "PB2/TSC_G3_IO4,EVENTOUT/ADC2_IN12,COMP4_INM,OPAMP3_VINM", 21 PB10 (io) "PB10/USART3_TX,TIM2_CH3,TSC_SYNC,EVENTOUT/COMP5_INM,OPAMP4_VINM,OPAMP3_VINM", 22 PB11 (io) "PB11/USART3_RX,TIM2_CH4,TSC_G6_IO1,EVENTOUT/COMP6_INP,OPAMP4_VINP", 25 PB12 (io) "PB12/SPI2_NSS,I2S2_WS,I2C2_SMBA,USART3_CK,TIM1_BKIN,TSC_G6_IO2,EVENTOUT/ADC4_IN3,COMP3_INM,OPAMP4_VOUT", 26 PB13 (io) "PB13/SPI2_SCK,I2S2_CK,USART3_CTS,TIM1_CH1N,TSC_G6_IO3,EVENTOUT/ADC3_IN5,COMP5_INP,OPAMP4_VINP,OPAMP3_VINP", 27 PB14 (io) "PB14/SPI2_MISO,I2S2ext_SD,USART3_RTS,TIM1_CH2N,TIM15_CH1,TSC_G6_IO4,EVENTOUT/COMP3_INP,ADC4_IN4,OPAMP2_VINP", 28 PB15 (io) "PB15/SPI2_MOSI,I2S2_SD,TIM1_CH3N,RTC_REFIN,TIM15_CH1N,TIM15_CH2,EVENTOUT/ADC4_IN5,COMP6_INM", 29 PA8 (io) "PA8/I2C2_SMBA,I2S2_MCK,USART1_CK,TIM1_CH1,TIM4_ETR,MCO,COMP3_OUT,EVENTOUT", 30 PA9 (io) "PA9/I2C2_SCL,I2S3_MCK,USART1_TX,TIM1_CH2,TIM2_CH3,TIM15_BKIN,TSC_G4_IO1,COMP5_OUT,EVENTOUT", 31 PA10 (io) "PA10/I2C2_SDA,USART1_RX,TIM1_CH3,TIM2_CH4,TIM8_BKIN,TIM17_BKIN,TSC_G4_IO2,COMP6_OUT,EVENTOUT", 32 PA11 (io) "PA11/USART1_CTS,USB_DM,CAN_RX,TIM1_CH1N,TIM1_CH4,TIM1_BKIN2,TIM4_CH1,COMP1_OUT,EVENTOUT", 33 PA12 (io) "PA12/USART1_RTS,USB_DP,CAN_TX,TIM1_CH2N,TIM1_ETR,TIM4_CH2,TIM16_CH1,COMP2_OUT,EVENTOUT", 34 PA13 (io) "PA13/USART3_CTS,TIM4_CH3,TIM16_CH1N,TSC_G4_IO3,IR_OUT,SWDIO-JTMS,EVENTOUT", 37 PA14 (io) "PA14/I2C1_SDA,USART2_TX,TIM8_CH2,TIM1_BKIN,TSC_G4_IO4,SWCLK-JTCK,EVENTOUT", 38 PA15 (io) "PA15/I2C1_SCL,SPI1_NSS,SPI3_NSS,I2S3_WS,JTDI,USART2_RX,TIM1_BKIN,TIM2_CH1_ETR,TIM8_CH1,EVENTOUT", 39 PB3 (io) "PB3/SPI3_SCK,I2S3_CK,SPI1_SCK,USART2_TX,TIM2_CH2,TIM3_ETR,TIM4_ETR,TIM8_CH1N,TSC_G5_IO1,JTDO-TRACESWO,EVENTOUT", 40 PB4 (io) "PB4/SPI3_MISO,I2S3ext_SD,SPI1_MISO,USART2_RX,TIM3_CH1,TIM16_CH1,TIM17_BKIN,TIM8_CH2N,TSC_G5_IO2,NJTRST,EVENTOUT", 41 PB5 (io) "PB5/SPI3_MOSI,SPI1_MOSI,I2S3_SD,I2C1_SMBA,USART2_CK,TIM16_BKIN,TIM3_CH2,TIM8_CH3N,TIM17_CH1,EVENTOUT", 42 PB6 (io) "PB6/I2C1_SCL,USART1_TX,TIM16_CH1N,TIM4_CH1,TIM8_CH1,TSC_G5_IO3,TIM8_ETR,TIM8_BKIN2,EVENTOUT", 43 PB7 (io) "PB7/I2C1_SDA,USART1_RX,TIM3_CH4,TIM4_CH2,TIM17_CH1N,TIM8_BKIN,TSC_G5_IO4,EVENTOUT", 44 BOOT0 (in) "Boot memory selection", 45 PB8 (io) "PB8/I2C1_SCL,CAN_RX,TIM16_CH1,TIM4_CH3,TIM8_CH2,TIM1_BKIN,TSC_SYNC,COMP1_OUT,EVENTOUT", 46 PB9 (io) "PB9/I2C1_SDA,CAN_TX,TIM17_CH1,TIM4_CH4,TIM8_CH3,IR_OUT,COMP2_OUT,EVENTOUT"
part B pins: 1 VBAT (power) "Backup power supply", 8 VSSA/VREF- (power) "Analog ground/Negative reference voltage", 9 VDDA/VREF+ (power) "Analog power supply/Positive reference voltage", 23 VSS_2 (power) "Digital power supply", 24 VDD_2 (power) "Digital power supply", 35 VSS_3 (power) "Ground", 36 VDD_3 (power) "Digital power supply", 47 VSS_1 (power) "Ground", 48 VDD_1 (power) "Digital power supply"

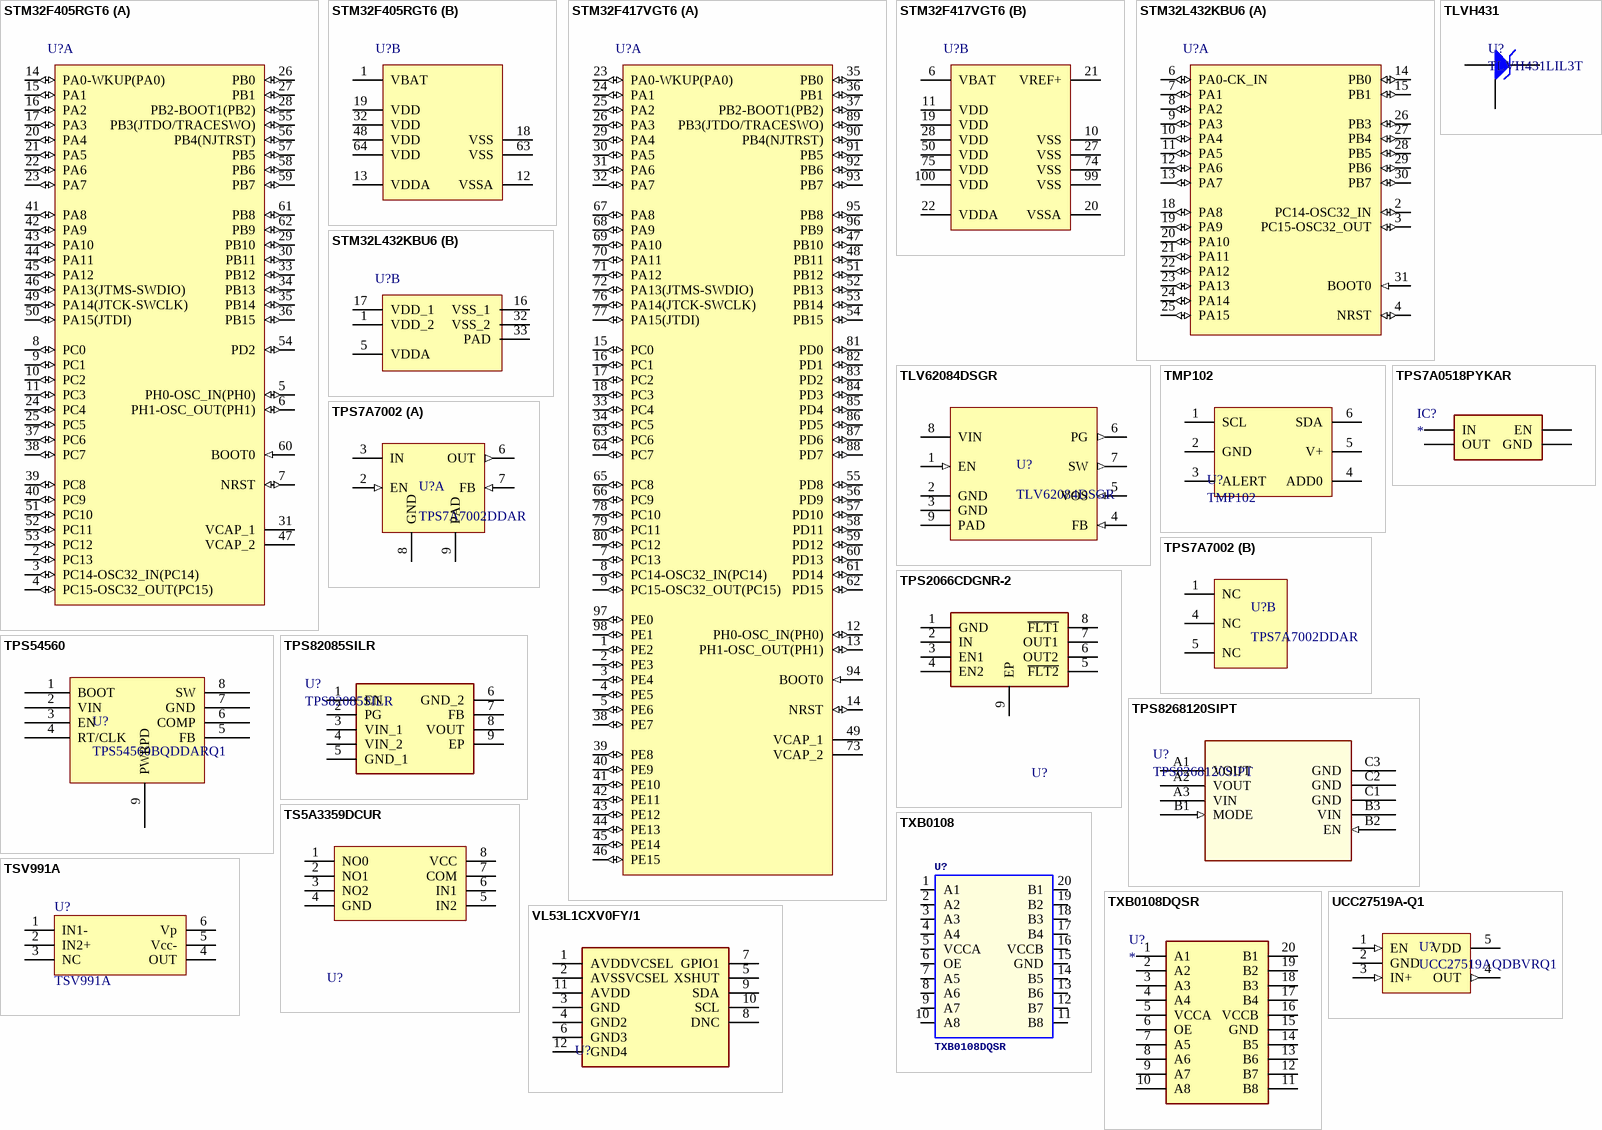
[diagram p7: symbols STM32F405RGT6 to VL53L1CXV0FY/1]